# Altium schematic symbol library EISI.SchLib: 270 symbols (part 2 of 3)
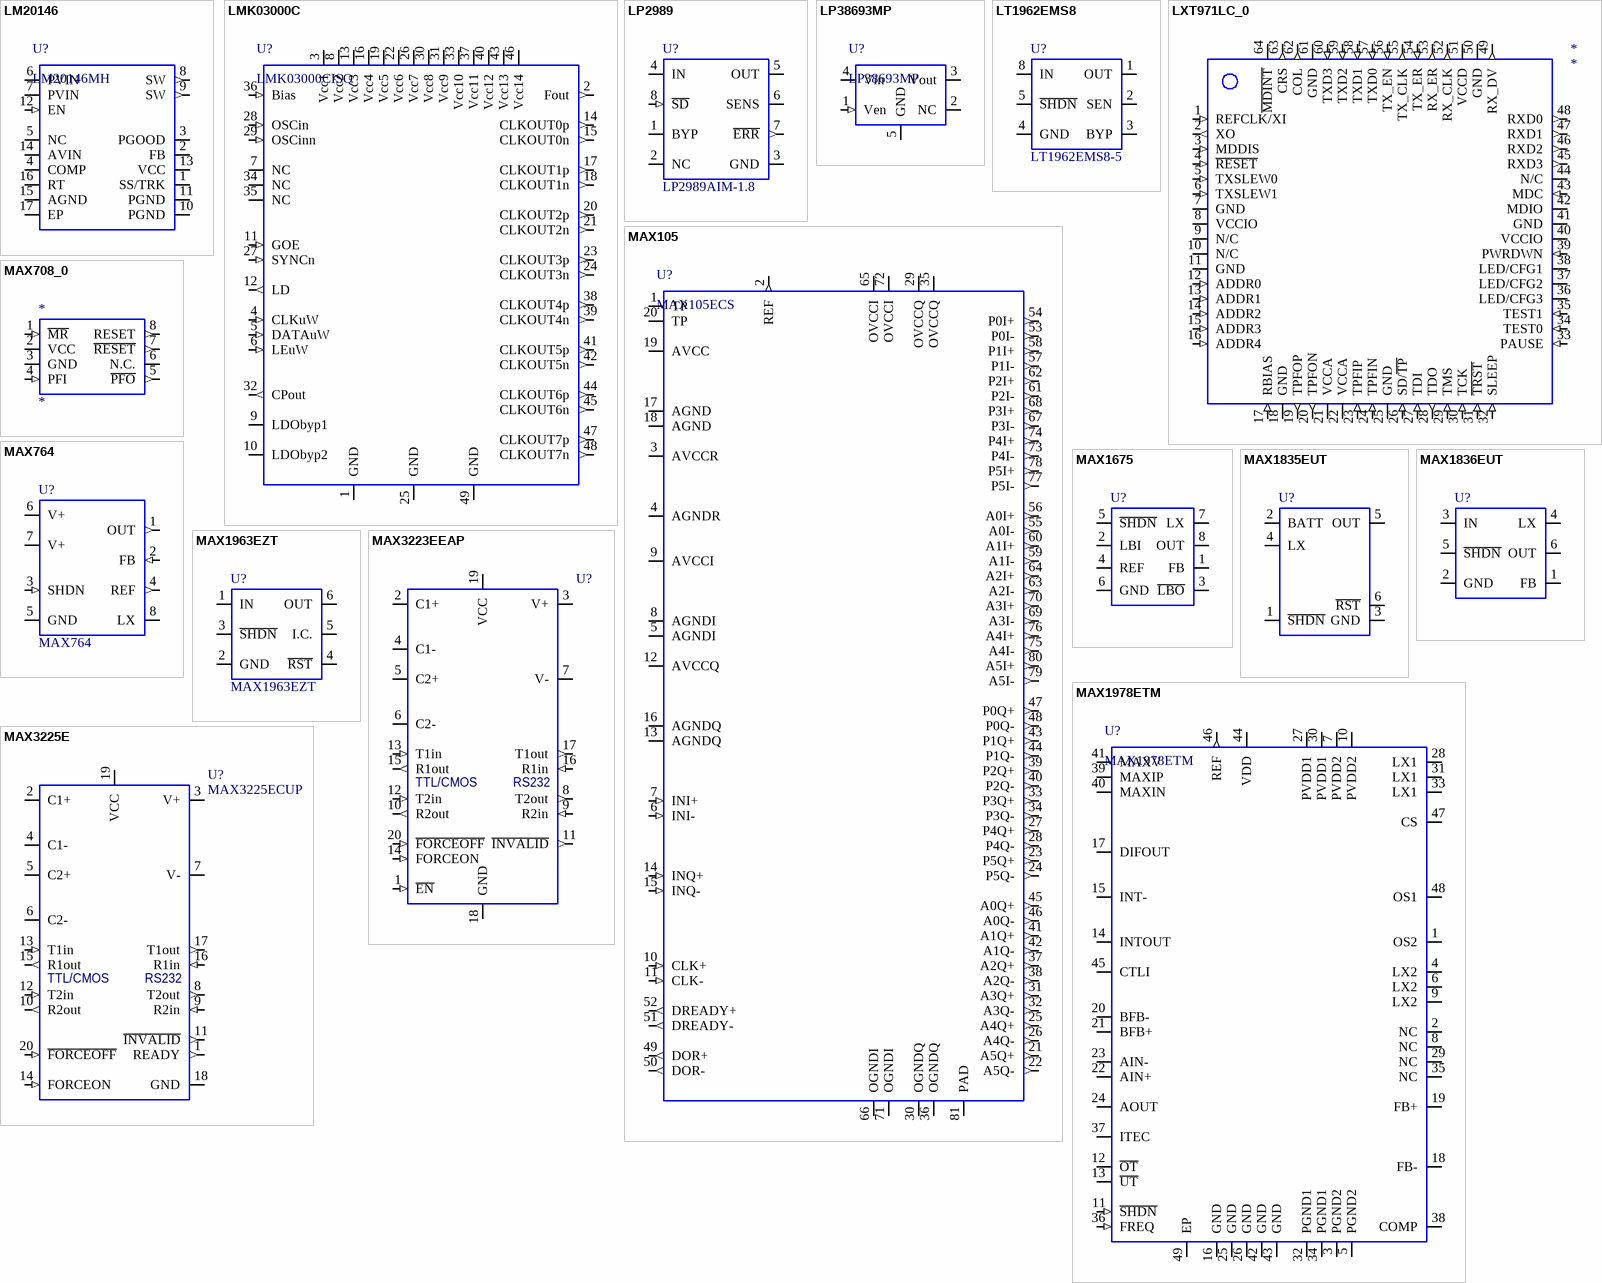
[diagram p20: symbols LM20146 to MAX3225E]

## MAX1963EZT
designator U?
Regulateur lineaire
footprint SOT23601
pins: 1 IN, 2 GND, 3 ~{SHDN}, 4 ~{RST}, 5 I.C., 6 OUT

## MAX1978ETM
designator U?
Intergrated Temperature Controller for Peltier Modules
footprint QFN48 (48-Pin Quad Flat No-Lead (QFG48))
pins: 1 OS2, 2 NC, 3 PGND2 (power), 4 LX2, 5 PGND2 (power), 6 LX2, 7 PVDD2 (power), 8 NC, 9 LX2, 10 PVDD2 (power), 11 ~{SHDN} (in), 12 ~{OT} (oc), 13 ~{UT} (oc), 14 INTOUT, 15 INT-, 16 GND (power), 17 DIFOUT, 18 FB-, 19 FB+, 20 BFB-, 21 BFB+, 22 AIN+, 23 AIN-, 24 AOUT, 25 GND (power), 26 GND (power), 27 PVDD1 (power), 28 LX1, 29 NC, 30 PVDD1 (power), 31 LX1, 32 PGND1 (power), 33 LX1, 34 PGND1 (power), 35 NC, 36 FREQ (in), 37 ITEC, 38 COMP, 39 MAXIP, 40 MAXIN, 41 MAXV, 42 GND (power), 43 GND (power), 44 VDD (power), 45 CTLI, 46 REF (out), 47 CS, 48 OS1, 49 EP (power)

## MAX3223EEAP
designator U?
pins: 1 ~{EN} (in), 2 C1+, 3 V+, 4 C1-, 5 C2+, 6 C2-, 7 V-, 8 T2out (out), 9 R2in (in), 10 R2out (out), 11 ~{INVALID} (out), 12 T2in (in), 13 T1in (in), 14 FORCEON (in), 15 R1out (out), 16 R1in (in), 17 T1out (out), 18 GND (power), 19 VCC (power), 20 ~{FORCEOFF} (in)
text: TTL/CMOS; RS232

## MAX3225E
designator U?, comment MAX3225ECUP
±15kV ESD-Protected, 1µA, 1Mbps, 3.0V to 5.5V,  RS-232 Transceivers with AutoShutdown Plus
footprint TSSOP20 (Shrink Small Outline; 20 Leads; Body Width 4.4 mm; Pitch 0.65 mm)
pins: 1 READY (out), 2 C1+, 3 V+, 4 C1-, 5 C2+, 6 C2-, 7 V-, 8 T2out (out), 9 R2in (in), 10 R2out (out), 11 ~{INVALID} (out), 12 T2in (in), 13 T1in (in), 14 FORCEON (in), 15 R1out (out), 16 R1in (in), 17 T1out (out), 18 GND (power), 19 VCC (power), 20 ~{FORCEOFF} (in)
text: TTL/CMOS; RS232

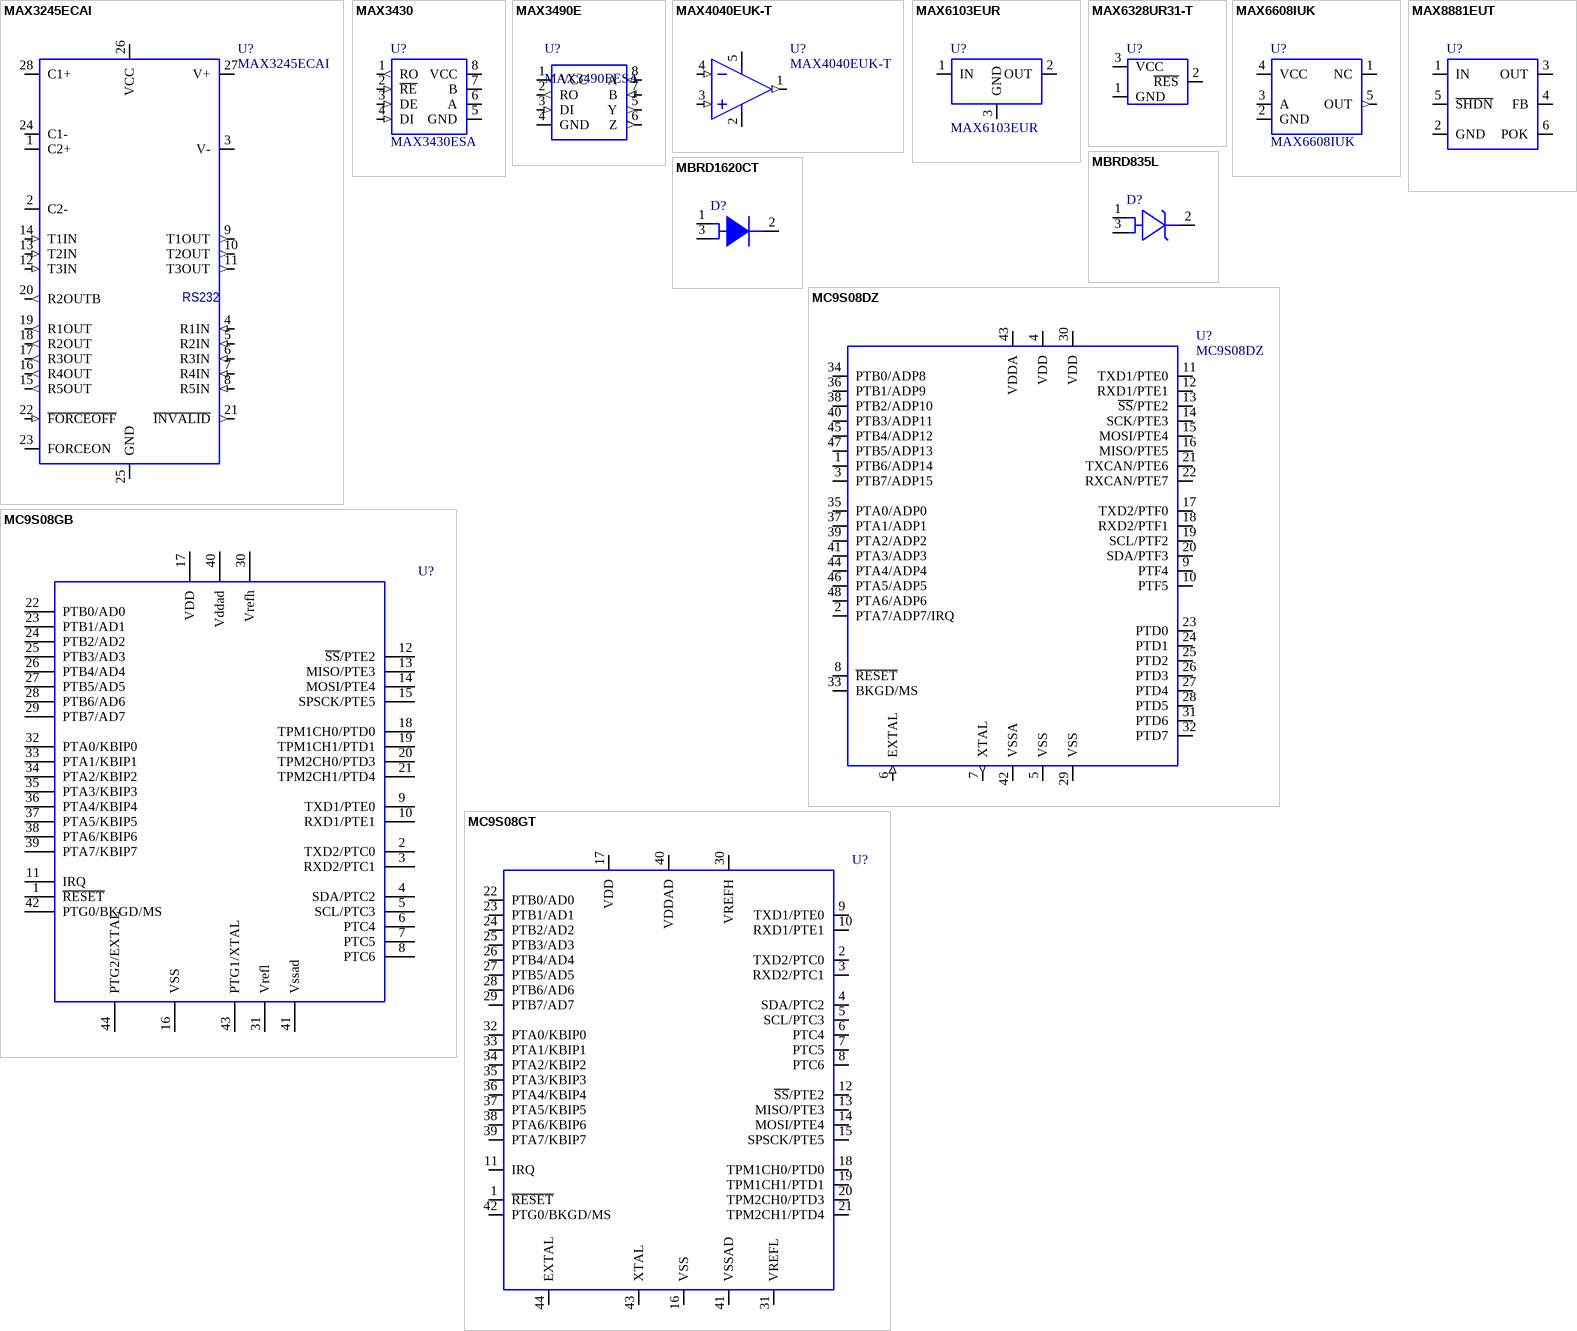
[diagram p6: symbols MAX3245ECAI to MC9S08GT]

## MAX3245ECAI
designator U?
RS-232 Transceiver
footprint SSOP28 (SSOP; 28 Leads; Body Width 5.3 mm; Pitch 0.65 mm)
pins: 1 C2+, 2 C2-, 3 V- (power), 4 R1IN (in), 5 R2IN (in), 6 R3IN (in), 7 R4IN (in), 8 R5IN (in), 9 T1OUT (out), 10 T2OUT (out), 11 T3OUT (out), 12 T3IN (in), 13 T2IN (in), 14 T1IN (in), 15 R5OUT (out), 16 R4OUT (out), 17 R3OUT (out), 18 R2OUT (out), 19 R1OUT (out), 20 R2OUTB (out), 21 ~{INVALID} (out), 22 ~{FORCEOFF} (in), 23 FORCEON, 24 C1-, 25 GND (power), 26 VCC (power), 27 V+ (power), 28 C1+
text: RS232

## MAX3430
designator U?, comment MAX3430ESA
RS-485 Transceiver
footprint SO801
pins: 1 RO (out), 2 ~{RE} (in), 3 DE (in), 4 DI (in), 5 GND (power), 6 A (io), 7 B (io), 8 VCC (power)

## MAX3490E
designator U?, comment MAX3490EESA
3.3V Powered, 10Mbps and Slew-Rate Limited, True RS-485/RS-422 Transceivers
footprint SO801
pins: 1 VCC (power), 2 RO (out), 3 DI (in), 4 GND (power), 5 Y (out), 6 Z (out), 7 B (in), 8 A (in)

## MAX4040EUK-T
designator U?
Single Micropower Rail-to-Rail I/O Op Amp in SOT23-5
footprint SOT23-5 (SOT-23/SC-74A; 5 Leads; Body 3 x 3 mm, inc. leads (LxW max))
simulation model MAX4104 (SUBCKT)
pins: 1 OUT (out), 2 VEE (power), 3 IN+ (in), 4 IN- (in), 5 VCC (power)

## MAX6103EUR
designator U?
Reference de tension
footprint SOT2301
pins: 1 IN (power), 2 OUT (power), 3 GND (power)

## MAX6328UR31-T
designator U?
uP reset circuit
footprint SOT2301
pins: 1 GND (power), 2 ~{RES} (oc), 3 VCC (power)

## MAX6608IUK
designator U?
Temperature sensor
footprint SOT23501
pins: 1 NC, 2 GND (power), 3 A (power), 4 VCC (power), 5 OUT (out)

## MAX8881EUT
designator U?
Regulateur lineaire
pins: 1 IN, 2 GND, 3 OUT, 4 FB, 5 ~{SHDN}, 6 POK

## MBRD835L
designator D?
Diode Schottky; Right: 30; Bottom: 40
footprint DPAK01
pins: 1 A1, 2 CATHODE, 3 A2

## MBRD1620CT
designator D?
Diode ultrafast; Right: 30; Bottom: 40
footprint D2PAK01
pins: 1 A1, 2 CATHODE, 3 A2

## MC9S08DZ
designator U?
Microcontrôleur
footprint QFP48 (48-Pin Thin Quad Flat Pack 0.5 mm Pitch, IPC High Density)
pins: 1 PTB6/ADP14 (io), 2 PTA7/ADP7/IRQ (io), 3 PTB7/ADP15 (io), 4 VDD (power), 5 VSS (power), 6 EXTAL (in), 7 XTAL (out), 8 ~{RESET} (io), 9 PTF4 (io), 10 PTF5 (io), 11 TXD1/PTE0 (io), 12 RXD1/PTE1 (io), 13 ~{SS}/PTE2 (io), 14 SCK/PTE3 (io), 15 MOSI/PTE4 (io), 16 MISO/PTE5, 17 TXD2/PTF0 (io), 18 RXD2/PTF1 (io), 19 SCL/PTF2 (io), 20 SDA/PTF3 (io), 21 TXCAN/PTE6 (io), 22 RXCAN/PTE7 (io), 23 PTD0 (io), 24 PTD1, 25 PTD2 (io), 26 PTD3 (io), 27 PTD4 (io), 28 PTD5 (io), 29 VSS (power), 30 VDD (power), 31 PTD6 (io), 32 PTD7 (io), 33 BKGD/MS (io), 34 PTB0/ADP8 (io), 35 PTA0/ADP0 (io), 36 PTB1/ADP9 (io), 37 PTA1/ADP1 (io), 38 PTB2/ADP10 (io), 39 PTA2/ADP2 (io), 40 PTB3/ADP11 (io), 41 PTA3/ADP3 (io), 42 VSSA, 43 VDDA, 44 PTA4/ADP4 (io), 45 PTB4/ADP12 (io), 46 PTA5/ADP5 (io), 47 PTB5/ADP13 (io), 48 PTA6/ADP6 (io)

## MC9S08GB
designator U?
Microcontrôleur
footprint QFP6401
pins: 1 ~{RESET}, 2 TXD2/PTC0, 3 RXD2/PTC1, 4 SDA/PTC2, 5 SCL/PTC3, 6 PTC4, 7 PTC5, 8 PTC6, 9 TXD1/PTE0, 10 RXD1/PTE1, 11 IRQ, 12 ~{SS}/PTE2, 13 MISO/PTE3, 14 MOSI/PTE4, 15 SPSCK/PTE5, 16 VSS, 17 VDD, 18 TPM1CH0/PTD0, 19 TPM1CH1/PTD1, 20 TPM2CH0/PTD3, 21 TPM2CH1/PTD4, 22 PTB0/AD0, 23 PTB1/AD1, 24 PTB2/AD2, 25 PTB3/AD3, 26 PTB4/AD4, 27 PTB5/AD5, 28 PTB6/AD6, 29 PTB7/AD7, 30 Vrefh, 31 Vrefl, 32 PTA0/KBIP0, 33 PTA1/KBIP1, 34 PTA2/KBIP2, 35 PTA3/KBIP3, 36 PTA4/KBIP4, 37 PTA5/KBIP5, 38 PTA6/KBIP6, 39 PTA7/KBIP7, 40 Vddad, 41 Vssad, 42 PTG0/BKGD/MS, 43 PTG1/XTAL, 44 PTG2/EXTAL

## MC9S08GT
designator U?
Microcontrôleur
footprint QFP4401
pins: 1 ~{RESET}, 2 TXD2/PTC0, 3 RXD2/PTC1, 4 SDA/PTC2, 5 SCL/PTC3, 6 PTC4, 7 PTC5, 8 PTC6, 9 TXD1/PTE0, 10 RXD1/PTE1, 11 IRQ, 12 ~{SS}/PTE2, 13 MISO/PTE3, 14 MOSI/PTE4, 15 SPSCK/PTE5, 16 VSS, 17 VDD, 18 TPM1CH0/PTD0, 19 TPM1CH1/PTD1, 20 TPM2CH0/PTD3, 21 TPM2CH1/PTD4, 22 PTB0/AD0, 23 PTB1/AD1, 24 PTB2/AD2, 25 PTB3/AD3, 26 PTB4/AD4, 27 PTB5/AD5, 28 PTB6/AD6, 29 PTB7/AD7, 30 VREFH, 31 VREFL, 32 PTA0/KBIP0, 33 PTA1/KBIP1, 34 PTA2/KBIP2, 35 PTA3/KBIP3, 36 PTA4/KBIP4, 37 PTA5/KBIP5, 38 PTA6/KBIP6, 39 PTA7/KBIP7, 40 VDDAD, 41 VSSAD, 42 PTG0/BKGD/MS, 43 XTAL, 44 EXTAL

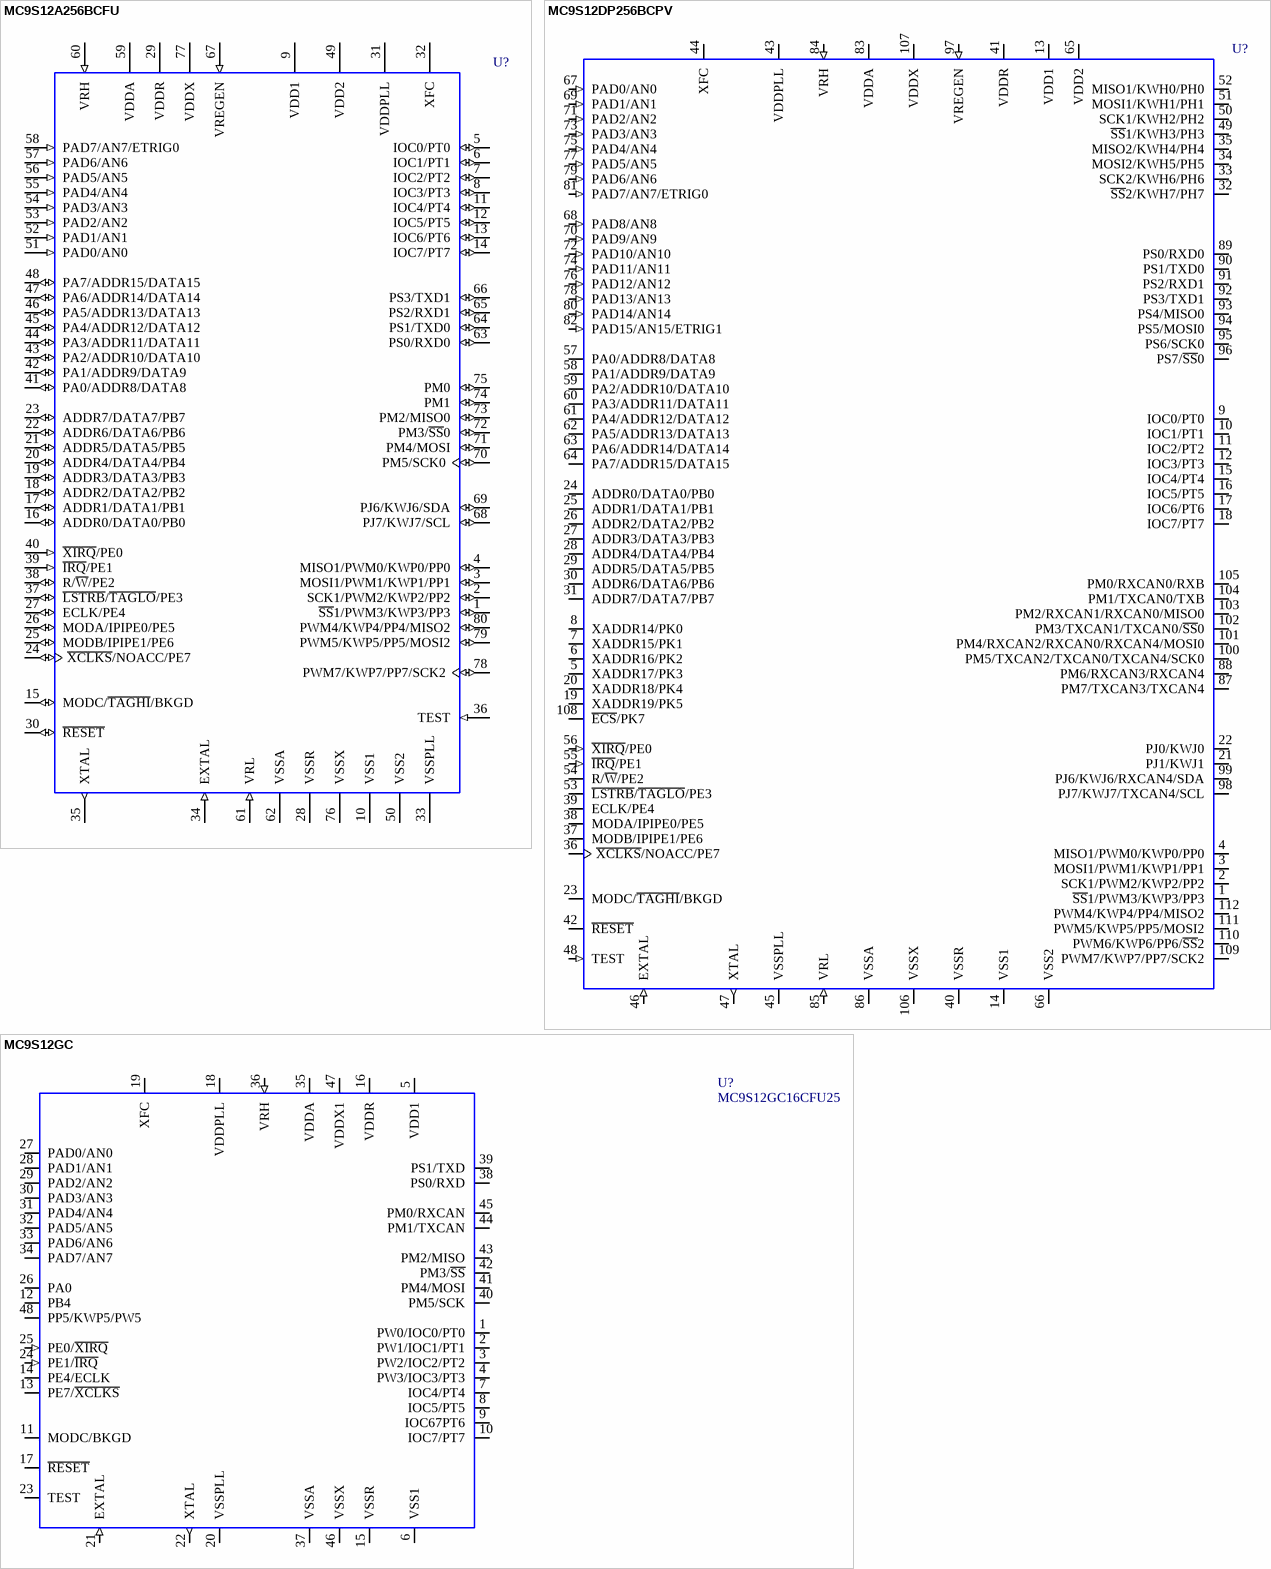
[diagram p7: symbols MC9S12A256BCFU to MC9S12GC]

## MC9S12A256BCFU
designator U?
16-Bit Microcontroller
footprint QFP80 (Plastic QFP; 80 Leads; Body 14 x 14 mm; Pitch 0.65 mm)
pins: 1 ~{SS}1/PWM3/KWP3/PP3 (io), 2 SCK1/PWM2/KWP2/PP2 (io), 3 MOSI1/PWM1/KWP1/PP1 (io), 4 MISO1/PWM0/KWP0/PP0 (io), 5 IOC0/PT0 (io), 6 IOC1/PT1 (io), 7 IOC2/PT2 (io), 8 IOC3/PT3 (io), 9 VDD1 (power), 10 VSS1 (power), 11 IOC4/PT4 (io), 12 IOC5/PT5 (io), 13 IOC6/PT6 (io), 14 IOC7/PT7 (io), 15 MODC/~{TAGHI}/BKGD (io), 16 ADDR0/DATA0/PB0 (io), 17 ADDR1/DATA1/PB1 (io), 18 ADDR2/DATA2/PB2 (io), 19 ADDR3/DATA3/PB3 (io), 20 ADDR4/DATA4/PB4 (io), 21 ADDR5/DATA5/PB5 (io), 22 ADDR6/DATA6/PB6 (io), 23 ADDR7/DATA7/PB7 (io), 24 ~{XCLKS}/NOACC/PE7 (io), 25 MODB/IPIPE1/PE6 (io), 26 MODA/IPIPE0/PE5 (io), 27 ECLK/PE4 (io), 28 VSSR (power), 29 VDDR (power), 30 ~{RESET} (io), 31 VDDPLL (power), 32 XFC, 33 VSSPLL (power), 34 EXTAL (in), 35 XTAL (out), 36 TEST (in), 37 ~{LSTRB}/~{TAGLO}/PE3 (io), 38 R/~{W}/PE2 (io), 39 ~{IRQ}/PE1 (in), 40 ~{XIRQ}/PE0 (in), 41 PA0/ADDR8/DATA8 (io), 42 PA1/ADDR9/DATA9 (io), 43 PA2/ADDR10/DATA10 (io), 44 PA3/ADDR11/DATA11 (io), 45 PA4/ADDR12/DATA12 (io), 46 PA5/ADDR13/DATA13 (io), 47 PA6/ADDR14/DATA14 (io), 48 PA7/ADDR15/DATA15 (io), 49 VDD2 (power), 50 VSS2 (power), 51 PAD0/AN0 (in), 52 PAD1/AN1 (in), 53 PAD2/AN2 (in), 54 PAD3/AN3 (in), 55 PAD4/AN4 (in), 56 PAD5/AN5 (in), 57 PAD6/AN6 (in), 58 PAD7/AN7/ETRIG0 (in), 59 VDDA (power), 60 VRH (in), 61 VRL (in), 62 VSSA (power), 63 PS0/RXD0 (io), 64 PS1/TXD0 (io), 65 PS2/RXD1 (io), 66 PS3/TXD1 (io), 67 VREGEN (in), 68 PJ7/KWJ7/SCL (io), 69 PJ6/KWJ6/SDA (io), 70 PM5/SCK0 (io), 71 PM4/MOSI (io), 72 PM3/~{SS}0 (io), 73 PM2/MISO0 (io), 74 PM1 (io), 75 PM0 (io), 76 VSSX (power), 77 VDDX (power), 78 PWM7/KWP7/PP7/SCK2 (io), 79 PWM5/KWP5/PP5/MOSI2 (io), 80 PWM4/KWP4/PP4/MISO2 (io)

## MC9S12DP256BCPV
designator U?
16-Bit Microcontroller; PackageDocument: rev3.1, Nov-2000; Published: 21-Mar-2003; DatasheetDocument: 12-Aug-2002; PackageReference: 987-01; Publisher: Altium Limited; ComponentLink1Description: Manufacturer Link; ComponentLink1URL: http://www.motorola.com/
footprint QFP11201 (QFP; 112 Leads; Body 20 x 20 mm; Pitch 0.65 mm)
pins: 1 ~{SS}1/PWM3/KWP3/PP3 (io), 2 SCK1/PWM2/KWP2/PP2 (io), 3 MOSI1/PWM1/KWP1/PP1 (io), 4 MISO1/PWM0/KWP0/PP0 (io), 5 XADDR17/PK3 (io), 6 XADDR16/PK2 (io), 7 XADDR15/PK1 (io), 8 XADDR14/PK0 (io), 9 IOC0/PT0 (io), 10 IOC1/PT1 (io), 11 IOC2/PT2 (io), 12 IOC3/PT3 (io), 13 VDD1 (power), 14 VSS1 (power), 15 IOC4/PT4 (io), 16 IOC5/PT5 (io), 17 IOC6/PT6 (io), 18 IOC7/PT7 (io), 19 XADDR19/PK5 (io), 20 XADDR18/PK4 (io), 21 PJ1/KWJ1 (io), 22 PJ0/KWJ0 (io), 23 MODC/~{TAGHI}/BKGD (io), 24 ADDR0/DATA0/PB0 (io), 25 ADDR1/DATA1/PB1 (io), 26 ADDR2/DATA2/PB2 (io), 27 ADDR3/DATA3/PB3 (io), 28 ADDR4/DATA4/PB4 (io), 29 ADDR5/DATA5/PB5 (io), 30 ADDR6/DATA6/PB6 (io), 31 ADDR7/DATA7/PB7 (io), 32 ~{SS}2/KWH7/PH7 (io), 33 SCK2/KWH6/PH6 (io), 34 MOSI2/KWH5/PH5 (io), 35 MISO2/KWH4/PH4 (io), 36 ~{XCLKS}/NOACC/PE7 (io), 37 MODB/IPIPE1/PE6 (io), 38 MODA/IPIPE0/PE5 (io), 39 ECLK/PE4 (io), 40 VSSR (power), 41 VDDR (power), 42 ~{RESET} (io), 43 VDDPLL (power), 44 XFC, 45 VSSPLL (power), 46 EXTAL (in), 47 XTAL (out), 48 TEST (in), 49 ~{SS}1/KWH3/PH3 (io), 50 SCK1/KWH2/PH2 (io), 51 MOSI1/KWH1/PH1 (io), 52 MISO1/KWH0/PH0 (io), 53 ~{LSTRB}/~{TAGLO}/PE3 (io), 54 R/~{W}/PE2 (io), 55 ~{IRQ}/PE1 (in), 56 ~{XIRQ}/PE0 (in), 57 PA0/ADDR8/DATA8 (io), 58 PA1/ADDR9/DATA9 (io), 59 PA2/ADDR10/DATA10 (io), 60 PA3/ADDR11/DATA11 (io), 61 PA4/ADDR12/DATA12 (io), 62 PA5/ADDR13/DATA13 (io), 63 PA6/ADDR14/DATA14 (io), 64 PA7/ADDR15/DATA15 (io), 65 VDD2 (power), 66 VSS2 (power), 67 PAD0/AN0 (in), 68 PAD8/AN8 (in), 69 PAD1/AN1 (in), 70 PAD9/AN9 (in), 71 PAD2/AN2 (in), 72 PAD10/AN10 (in), 73 PAD3/AN3 (in), 74 PAD11/AN11 (in), 75 PAD4/AN4 (in), 76 PAD12/AN12 (in), 77 PAD5/AN5 (in), 78 PAD13/AN13 (in), 79 PAD6/AN6 (in), 80 PAD14/AN14 (in), 81 PAD7/AN7/ETRIG0 (in), 82 PAD15/AN15/ETRIG1 (in), 83 VDDA (power), 84 VRH (in), 85 VRL (in), 86 VSSA (power), 87 PM7/TXCAN3/TXCAN4 (io), 88 PM6/RXCAN3/RXCAN4 (io), 89 PS0/RXD0 (io), 90 PS1/TXD0 (io), 91 PS2/RXD1 (io), 92 PS3/TXD1 (io), 93 PS4/MISO0 (io), 94 PS5/MOSI0 (io), 95 PS6/SCK0 (io), 96 PS7/~{SS}0 (io), 97 VREGEN (in), 98 PJ7/KWJ7/TXCAN4/SCL (io), 99 PJ6/KWJ6/RXCAN4/SDA (io), 100 PM5/TXCAN2/TXCAN0/TXCAN4/SCK0 (io), 101 PM4/RXCAN2/RXCAN0/RXCAN4/MOSI0 (io), 102 PM3/TXCAN1/TXCAN0/~{SS}0 (io), 103 PM2/RXCAN1/RXCAN0/MISO0 (io), 104 PM1/TXCAN0/TXB (io), 105 PM0/RXCAN0/RXB (io), 106 VSSX (power), 107 VDDX (power), 108 ~{ECS}/PK7 (io), 109 PWM7/KWP7/PP7/SCK2 (io), 110 PWM6/KWP6/PP6/~{SS}2 (io), 111 PWM5/KWP5/PP5/MOSI2 (io), 112 PWM4/KWP4/PP4/MISO2 (io)

## MC9S12GC
designator U?, comment MC9S12GC16CFU25
16-Bit Microcontroller
footprint LQFP48 (48-Pin Thin Quad Flat Pack 0.5 mm Pitch, IPC Medium Density)
pins: 1 PW0/IOC0/PT0 (io), 2 PW1/IOC1/PT1 (io), 3 PW2/IOC2/PT2 (io), 4 PW3/IOC3/PT3 (io), 5 VDD1 (power), 6 VSS1 (power), 7 IOC4/PT4 (io), 8 IOC5/PT5 (io), 9 IOC67PT6 (io), 10 IOC7/PT7 (io), 11 MODC/BKGD (io), 12 PB4 (io), 13 PE7/~{XCLKS} (io), 14 PE4/ECLK (io), 15 VSSR (power), 16 VDDR (power), 17 ~{RESET} (io), 18 VDDPLL (power), 19 XFC, 20 VSSPLL (power), 21 EXTAL (in), 22 XTAL (out), 23 TEST (power), 24 PE1/~{IRQ} (in), 25 PE0/~{XIRQ} (in), 26 PA0 (io), 27 PAD0/AN0 (io), 28 PAD1/AN1 (io), 29 PAD2/AN2 (io), 30 PAD3/AN3 (io), 31 PAD4/AN4 (io), 32 PAD5/AN5 (io), 33 PAD6/AN6 (io), 34 PAD7/AN7 (io), 35 VDDA (power), 36 VRH (in), 37 VSSA (power), 38 PS0/RXD (io), 39 PS1/TXD (io), 40 PM5/SCK (io), 41 PM4/MOSI (io), 42 PM3/~{SS} (io), 43 PM2/MISO (io), 44 PM1/TXCAN (io), 45 PM0/RXCAN (io), 46 VSSX (power), 47 VDDX1 (power), 48 PP5/KWP5/PW5 (io)

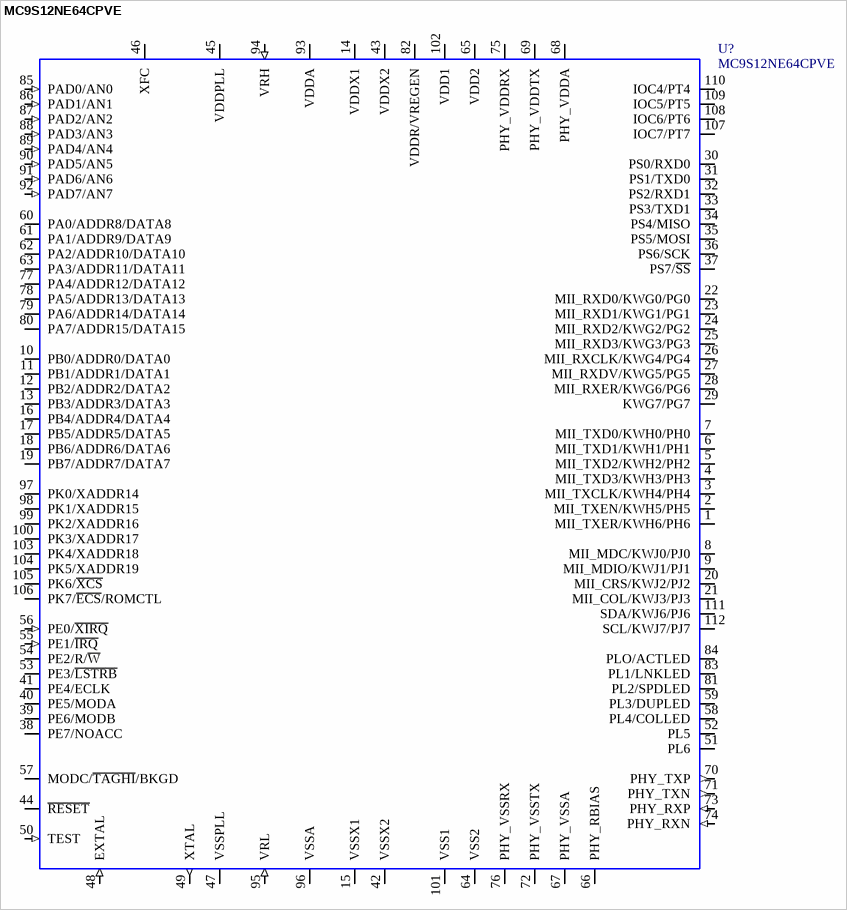
[diagram p8: symbol MC9S12NE64CPVE]

## MC9S12NE64CPVE
designator U?
16-Bit Microcontroller
footprint QFP11201 (QFP; 112 Leads; Body 20 x 20 mm; Pitch 0.65 mm)
pins: 1 MII_TXER/KWH6/PH6 (io), 2 MII_TXEN/KWH5/PH5 (io), 3 MII_TXCLK/KWH4/PH4 (io), 4 MII_TXD3/KWH3/PH3 (io), 5 MII_TXD2/KWH2/PH2 (io), 6 MII_TXD1/KWH1/PH1 (io), 7 MII_TXD0/KWH0/PH0 (io), 8 MII_MDC/KWJ0/PJ0 (io), 9 MII_MDIO/KWJ1/PJ1 (io), 10 PB0/ADDR0/DATA0 (io), 11 PB1/ADDR1/DATA1 (io), 12 PB2/ADDR2/DATA2 (io), 13 PB3/ADDR3/DATA3 (io), 14 VDDX1 (power), 15 VSSX1 (power), 16 PB4/ADDR4/DATA4 (io), 17 PB5/ADDR5/DATA5 (io), 18 PB6/ADDR6/DATA6 (io), 19 PB7/ADDR7/DATA7 (io), 20 MII_CRS/KWJ2/PJ2 (io), 21 MII_COL/KWJ3/PJ3 (io), 22 MII_RXD0/KWG0/PG0 (io), 23 MII_RXD1/KWG1/PG1 (io), 24 MII_RXD2/KWG2/PG2 (io), 25 MII_RXD3/KWG3/PG3 (io), 26 MII_RXCLK/KWG4/PG4 (io), 27 MII_RXDV/KWG5/PG5 (io), 28 MII_RXER/KWG6/PG6 (io), 29 KWG7/PG7 (io), 30 PS0/RXD0 (io), 31 PS1/TXD0 (io), 32 PS2/RXD1 (io), 33 PS3/TXD1 (io), 34 PS4/MISO (io), 35 PS5/MOSI (io), 36 PS6/SCK (io), 37 PS7/~{SS} (io), 38 PE7/NOACC (io), 39 PE6/MODB (io), 40 PE5/MODA (io), 41 PE4/ECLK (io), 42 VSSX2 (power), 43 VDDX2 (power), 44 ~{RESET} (io), 45 VDDPLL (power), 46 XFC, 47 VSSPLL (power), 48 EXTAL (in), 49 XTAL (out), 50 TEST (in), 51 PL6 (io), 52 PL5 (io), 53 PE3/~{LSTRB} (io), 54 PE2/R/~{W} (io), 55 PE1/~{IRQ} (in), 56 PE0/~{XIRQ} (in), 57 MODC/~{TAGHI}/BKGD (io), 58 PL4/COLLED (io), 59 PL3/DUPLED (io), 60 PA0/ADDR8/DATA8 (io), 61 PA1/ADDR9/DATA9 (io), 62 PA2/ADDR10/DATA10 (io), 63 PA3/ADDR11/DATA11 (io), 64 VSS2 (power), 65 VDD2 (power), 66 PHY_RBIAS, 67 PHY_VSSA, 68 PHY_VDDA, 69 PHY_VDDTX, 70 PHY_TXP (out), 71 PHY_TXN (out), 72 PHY_VSSTX (power), 73 PHY_RXP (in), 74 PHY_RXN (in), 75 PHY_VDDRX (power), 76 PHY_VSSRX (power), 77 PA4/ADDR12/DATA12 (io), 78 PA5/ADDR13/DATA13 (io), 79 PA6/ADDR14/DATA14 (io), 80 PA7/ADDR15/DATA15 (io), 81 PL2/SPDLED (io), 82 VDDR/VREGEN (power), 83 PL1/LNKLED (io), 84 PLO/ACTLED (io), 85 PAD0/AN0 (in), 86 PAD1/AN1 (in), 87 PAD2/AN2 (in), 88 PAD3/AN3 (in), 89 PAD4/AN4 (in), 90 PAD5/AN5 (in), 91 PAD6/AN6 (in), 92 PAD7/AN7 (in), 93 VDDA (power), 94 VRH (in), 95 VRL (in), 96 VSSA (power), 97 PK0/XADDR14 (io), 98 PK1/XADDR15 (io), 99 PK2/XADDR16 (io), 100 PK3/XADDR17 (io), 101 VSS1 (power), 102 VDD1 (power), 103 PK4/XADDR18 (io), 104 PK5/XADDR19 (io), 105 PK6/~{XCS} (io), 106 PK7/~{ECS}/ROMCTL (io), 107 IOC7/PT7 (io), 108 IOC6/PT6 (io), 109 IOC5/PT5 (io), 110 IOC4/PT4 (io), 111 SDA/KWJ6/PJ6 (io), 112 SCL/KWJ7/PJ7 (io)

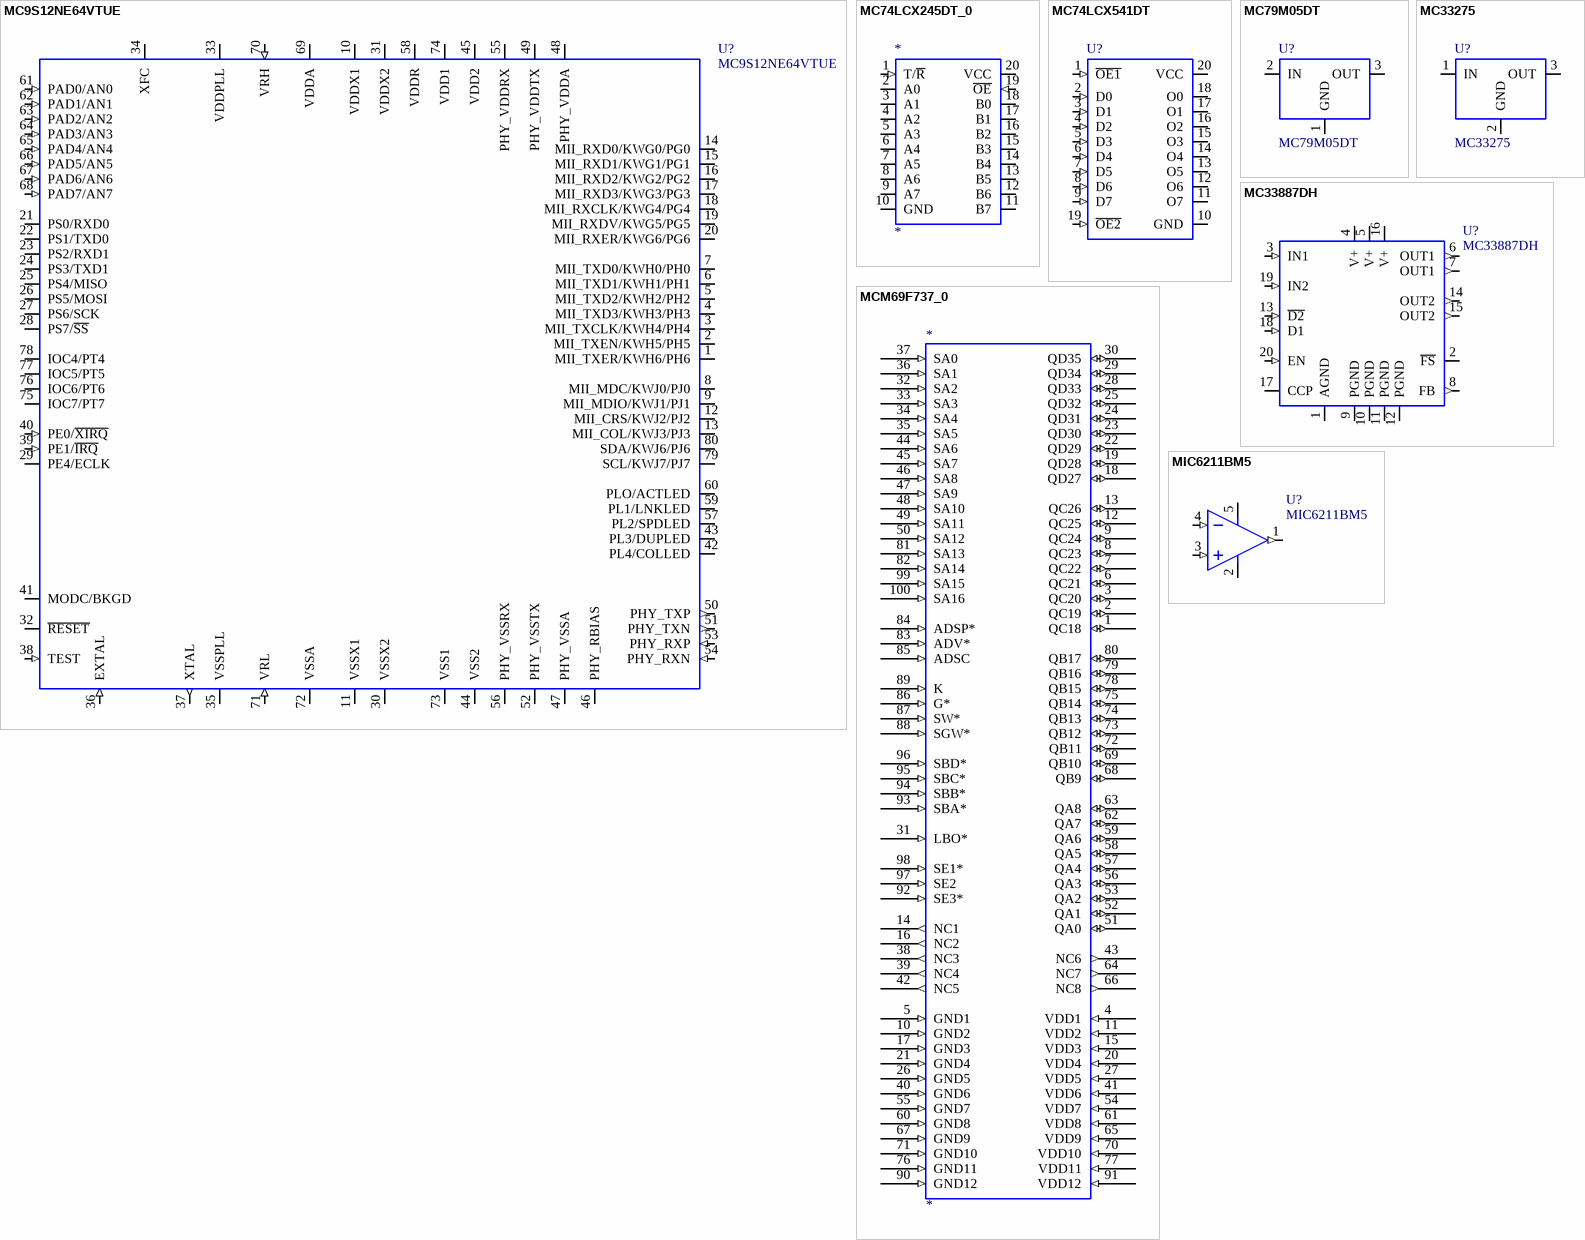
[diagram p9: symbols MC9S12NE64VTUE to MIC6211BM5]

## MC9S12NE64VTUE
designator U?
16-Bit Microcontroller
footprint QFP80 (Plastic QFP; 80 Leads; Body 14 x 14 mm; Pitch 0.65 mm)
pins: 1 MII_TXER/KWH6/PH6 (io), 2 MII_TXEN/KWH5/PH5 (io), 3 MII_TXCLK/KWH4/PH4 (io), 4 MII_TXD3/KWH3/PH3 (io), 5 MII_TXD2/KWH2/PH2 (io), 6 MII_TXD1/KWH1/PH1 (io), 7 MII_TXD0/KWH0/PH0 (io), 8 MII_MDC/KWJ0/PJ0 (io), 9 MII_MDIO/KWJ1/PJ1 (io), 10 VDDX1 (power), 11 VSSX1 (power), 12 MII_CRS/KWJ2/PJ2 (io), 13 MII_COL/KWJ3/PJ3 (io), 14 MII_RXD0/KWG0/PG0 (io), 15 MII_RXD1/KWG1/PG1 (io), 16 MII_RXD2/KWG2/PG2 (io), 17 MII_RXD3/KWG3/PG3 (io), 18 MII_RXCLK/KWG4/PG4 (io), 19 MII_RXDV/KWG5/PG5 (io), 20 MII_RXER/KWG6/PG6 (io), 21 PS0/RXD0 (io), 22 PS1/TXD0 (io), 23 PS2/RXD1 (io), 24 PS3/TXD1 (io), 25 PS4/MISO (io), 26 PS5/MOSI (io), 27 PS6/SCK (io), 28 PS7/~{SS} (io), 29 PE4/ECLK (io), 30 VSSX2 (power), 31 VDDX2 (power), 32 ~{RESET} (io), 33 VDDPLL (power), 34 XFC, 35 VSSPLL (power), 36 EXTAL (in), 37 XTAL (out), 38 TEST (in), 39 PE1/~{IRQ} (in), 40 PE0/~{XIRQ} (in), 41 MODC/BKGD (io), 42 PL4/COLLED (io), 43 PL3/DUPLED (io), 44 VSS2 (power), 45 VDD2 (power), 46 PHY_RBIAS, 47 PHY_VSSA, 48 PHY_VDDA, 49 PHY_VDDTX, 50 PHY_TXP (out), 51 PHY_TXN (out), 52 PHY_VSSTX (power), 53 PHY_RXP (in), 54 PHY_RXN (in), 55 PHY_VDDRX (power), 56 PHY_VSSRX (power), 57 PL2/SPDLED (io), 58 VDDR (power), 59 PL1/LNKLED (io), 60 PLO/ACTLED (io), 61 PAD0/AN0 (in), 62 PAD1/AN1 (in), 63 PAD2/AN2 (in), 64 PAD3/AN3 (in), 65 PAD4/AN4 (in), 66 PAD5/AN5 (in), 67 PAD6/AN6 (in), 68 PAD7/AN7 (in), 69 VDDA (power), 70 VRH (in), 71 VRL (in), 72 VSSA (power), 73 VSS1 (power), 74 VDD1 (power), 75 IOC7/PT7 (io), 76 IOC6/PT6 (io), 77 IOC5/PT5 (io), 78 IOC4/PT4 (io), 79 SCL/KWJ7/PJ7 (io), 80 SDA/KWJ6/PJ6 (io)

## MC74LCX245DT_0
designator *
Right: 70; Bottom: 110
pins: 1 T/~{R} (in), 2 A0 (io), 3 A1 (io), 4 A2 (io), 5 A3 (io), 6 A4 (io), 7 A5 (io), 8 A6 (io), 9 A7 (io), 10 GND, 11 B7 (io), 12 B6 (io), 13 B5 (io), 14 B4 (io), 15 B3 (io), 16 B2 (io), 17 B1 (io), 18 B0 (io), 19 ~{OE} (in), 20 VCC

## MC74LCX541DT
designator U?
Octal buffer; Right: 70; Bottom: 130
pins: 1 ~{OE1} (in), 2 D0 (in), 3 D1 (in), 4 D2 (in), 5 D3 (in), 6 D4 (in), 7 D5 (in), 8 D6 (in), 9 D7 (in), 10 GND, 11 O7 (io), 12 O6 (io), 13 O5 (io), 14 O4 (io), 15 O3 (io), 16 O2 (io), 17 O1 (io), 18 O0 (io), 19 ~{OE2} (in), 20 VCC

## MC79M05DT
designator U?
Negative Voltage Regulator 500mA
footprint DPAK01
pins: 1 GND, 2 IN, 3 OUT

## MC33275
designator U?
Regulateur lineaire
footprint DPAK01
pins: 1 IN, 2 GND, 3 OUT

## MC33887DH
designator U?
H-Bridge with current feedback
footprint HSOP20 (SOP20 with heatsink)
pins: 1 AGND (power), 2 ~{FS} (oc), 3 IN1 (in), 4 V+ (power), 5 V+ (power), 6 OUT1 (out), 7 OUT1 (out), 8 FB (out), 9 PGND (power), 10 PGND (power), 11 PGND (power), 12 PGND (power), 13 ~{D2} (in), 14 OUT2 (out), 15 OUT2 (out), 16 V+ (power), 17 CCP, 18 D1 (in), 19 IN2 (in), 20 EN (in)

## MCM69F737_0
designator *
Right: 110; Bottom: 570
pins: 1 QC18 (io), 2 QC19 (io), 3 QC20 (io), 4 VDD1 (in), 5 GND1 (in), 6 QC21 (io), 7 QC22 (io), 8 QC23 (io), 9 QC24 (io), 10 GND2 (in), 11 VDD2 (in), 12 QC25 (io), 13 QC26 (io), 14 NC1 (out), 15 VDD3 (in), 16 NC2 (out), 17 GND3 (in), 18 QD27 (io), 19 QD28 (io), 20 VDD4 (in), 21 GND4 (in), 22 QD29 (io), 23 QD30 (io), 24 QD31 (io), 25 QD32 (io), 26 GND5 (in), 27 VDD5 (in), 28 QD33 (io), 29 QD34 (io), 30 QD35 (io), 31 LBO* (in), 32 SA2 (in), 33 SA3 (in), 34 SA4 (in), 35 SA5 (in), 36 SA1 (in), 37 SA0 (in), 38 NC3 (out), 39 NC4 (out), 40 GND6 (in), 41 VDD6 (in), 42 NC5 (out), 43 NC6 (out), 44 SA6 (in), 45 SA7 (in), 46 SA8 (in), 47 SA9 (in), 48 SA10 (in), 49 SA11 (in), 50 SA12 (in), 51 QA0 (io), 52 QA1 (io), 53 QA2 (io), 54 VDD7 (in), 55 GND7 (in), 56 QA3 (io), 57 QA4 (io), 58 QA5 (io), 59 QA6 (io), 60 GND8 (in), 61 VDD8 (in), 62 QA7 (io), 63 QA8 (io), 64 NC7 (out), 65 VDD9 (in), 66 NC8 (out), 67 GND9 (in), 68 QB9 (io), 69 QB10 (io), 70 VDD10 (in), 71 GND10 (in), 72 QB11 (io), 73 QB12 (io), 74 QB13 (io), 75 QB14 (io), 76 GND11 (in), 77 VDD11 (in), 78 QB15 (io), 79 QB16 (io), 80 QB17 (io), 81 SA13 (in), 82 SA14 (in), 83 ADV* (in), 84 ADSP* (in), 85 ADSC (in), 86 G* (in), 87 SW* (in), 88 SGW* (in), 89 K (in), 90 GND12 (in), 91 VDD12 (in), 92 SE3* (in), 93 SBA* (in), 94 SBB* (in), 95 SBC* (in), 96 SBD* (in), 97 SE2 (in), 98 SE1* (in), 99 SA15 (in), 100 SA16 (in)

## MIC6211BM5
designator U?
Op Amp in SOT23-5
footprint SOT23-5 (SOT-23/SC-74A; 5 Leads; Body 3 x 3 mm, inc. leads (LxW max))
simulation model MAX4104 (SUBCKT)
pins: 1 OUT (out), 2 V- (power), 3 IN+ (in), 4 IN- (in), 5 V+ (power)

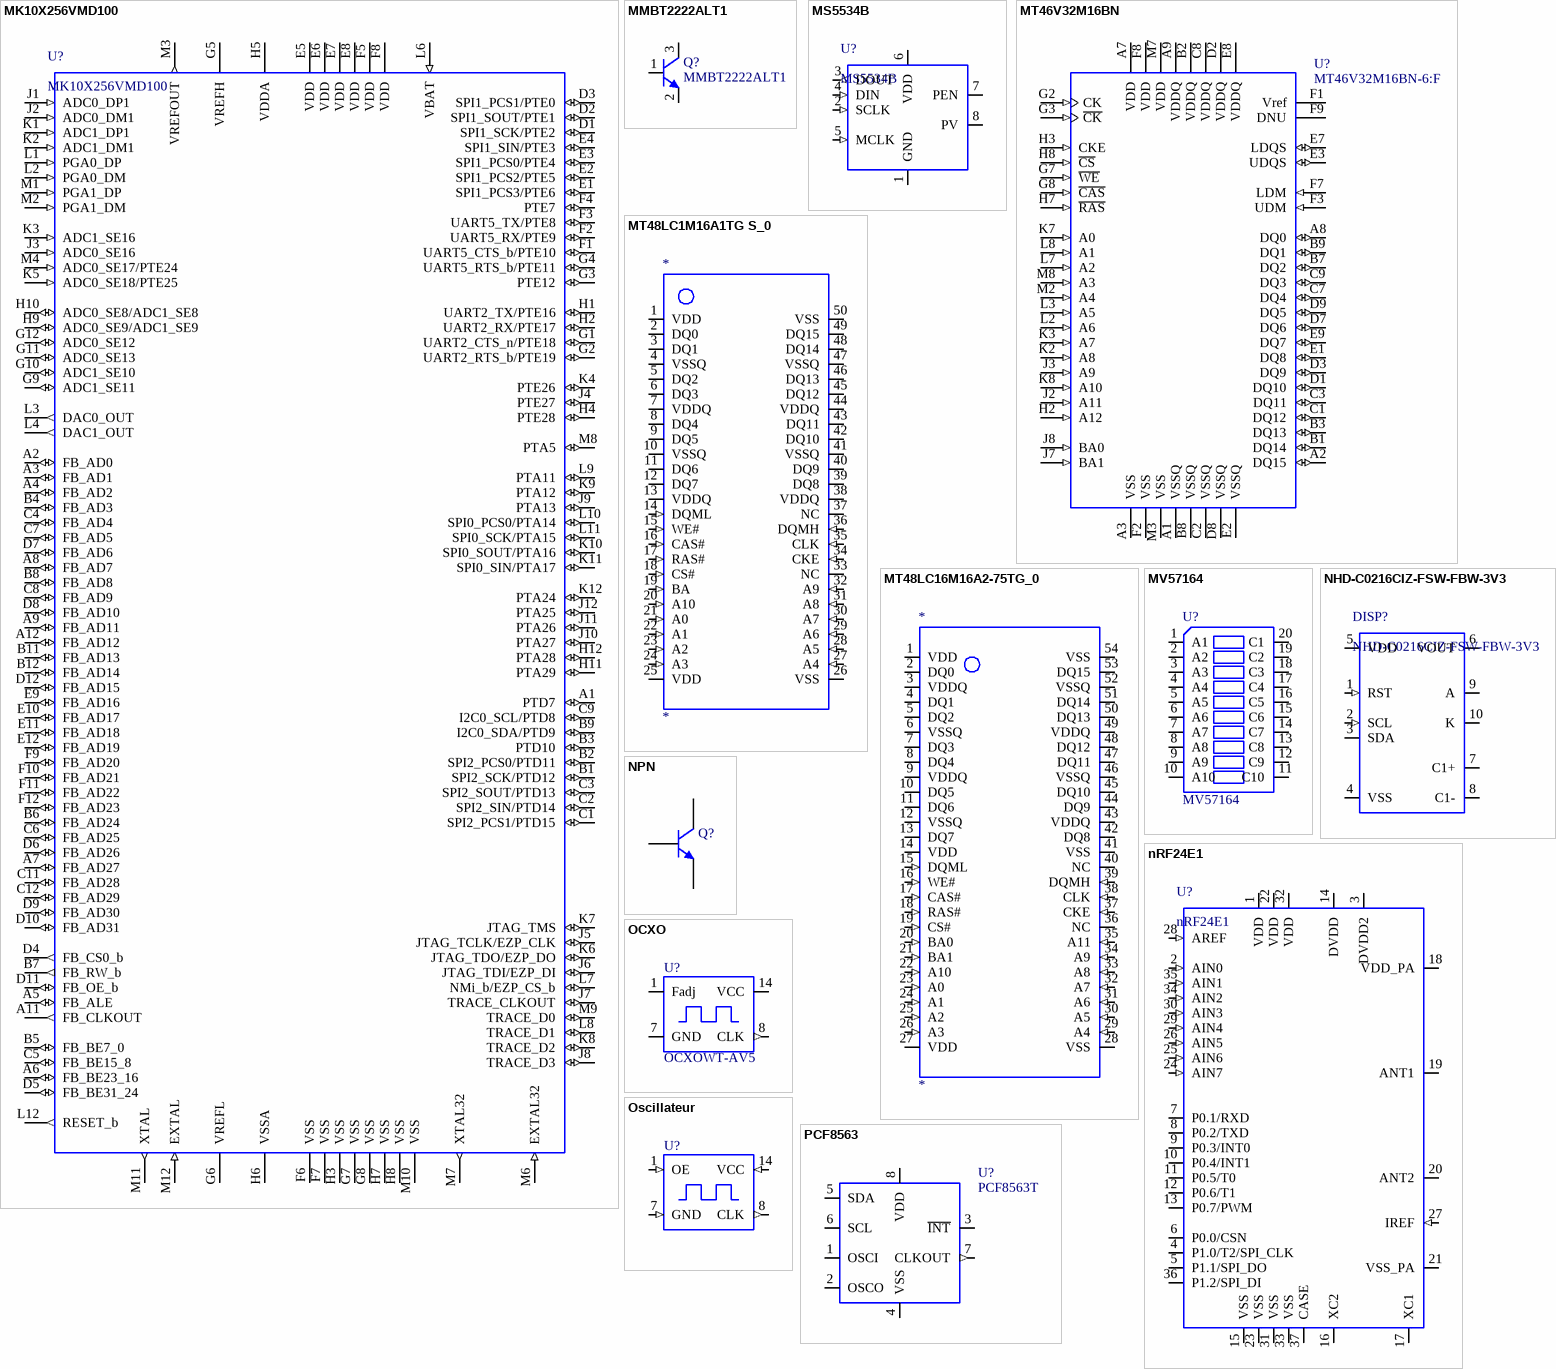
[diagram p10: symbols MK10X256VMD100 to PCF8563]

## MK10X256VMD100
designator U?
footprint MAPBGA144 (BGA, 144-Leads, Body 13x13mm, Pitch 1mm)
pins: A1 PTD7 (io), A2 FB_AD0 (io), A3 FB_AD1 (io), A4 FB_AD2 (io), A5 FB_ALE (io), A6 FB_BE23_16 (io), A7 FB_AD27 (io), A8 FB_AD7 (io), A9 FB_AD11 (io), A11 FB_CLKOUT (out), A12 FB_AD12 (io), B1 SPI2_SCK/PTD12 (io), B2 SPI2_PCS0/PTD11 (io), B3 PTD10 (io), B4 FB_AD3 (io), B5 FB_BE7_0 (io), B6 FB_AD24 (io), B7 FB_RW_b (out), B8 FB_AD8 (io), B9 I2C0_SDA/PTD9 (io), B11 FB_AD13 (io), B12 FB_AD14 (io), C1 SPI2_PCS1/PTD15 (io), C2 SPI2_SIN/PTD14 (io), C3 SPI2_SOUT/PTD13 (io), C4 FB_AD4 (io), C5 FB_BE15_8 (io), C6 FB_AD25 (io), C7 FB_AD5 (io), C8 FB_AD9 (io), C9 I2C0_SCL/PTD8 (io), C11 FB_AD28 (io), C12 FB_AD29 (io), D1 SPI1_SCK/PTE2 (io), D2 SPI1_SOUT/PTE1 (io), D3 SPI1_PCS1/PTE0 (io), D4 FB_CS0_b (out), D5 FB_BE31_24 (io), D6 FB_AD26 (io), D7 FB_AD6 (io), D8 FB_AD10 (io), D9 FB_AD30 (io), D10 FB_AD31 (io), D11 FB_OE_b (io), D12 FB_AD15 (io), E1 SPI1_PCS3/PTE6 (io), E2 SPI1_PCS2/PTE5 (io), E3 SPI1_PCS0/PTE4 (io), E4 SPI1_SIN/PTE3 (io), E5 VDD (power), E6 VDD (power), E7 VDD (power), E8 VDD (power), E9 FB_AD16 (io), E10 FB_AD17 (io), E11 FB_AD18 (io), E12 FB_AD19 (io), F1 UART5_CTS_b/PTE10 (io), F2 UART5_RX/PTE9 (io), F3 UART5_TX/PTE8 (io), F4 PTE7 (io), F5 VDD (power), F6 VSS (power), F7 VSS (power), F8 VDD (power), F9 FB_AD20 (io), F10 FB_AD21 (io), F11 FB_AD22 (io), F12 FB_AD23 (io), G1 UART2_CTS_n/PTE18 (io), G2 UART2_RTS_b/PTE19 (io), G3 PTE12 (io), G4 UART5_RTS_b/PTE11 (io), G5 VREFH, G6 VREFL, G7 VSS (power), G8 VSS (power), G9 ADC1_SE11 (io), G10 ADC1_SE10 (io), G11 ADC0_SE13 (io), G12 ADC0_SE12 (io), H1 UART2_TX/PTE16 (io), H2 UART2_RX/PTE17 (io), H3 VSS (power), H4 PTE28 (io), H5 VDDA (power), H6 VSSA (power), H7 VSS (power), H8 VSS (power), H9 ADC0_SE9/ADC1_SE9 (io), H10 ADC0_SE8/ADC1_SE8 (io), H11 PTA29 (io), H12 PTA28 (io), J1 ADC0_DP1 (in), J2 ADC0_DM1 (in), J3 ADC0_SE16 (in), J4 PTE27 (io), J5 JTAG_TCLK/EZP_CLK (io), J6 JTAG_TDI/EZP_DI (io), J7 TRACE_CLKOUT (io), J8 TRACE_D3 (io), J9 PTA13 (io), J10 PTA27 (io), J11 PTA26 (io), J12 PTA25 (io), K1 ADC1_DP1 (in), K2 ADC1_DM1 (in), K3 ADC1_SE16 (in), K4 PTE26 (io), K5 ADC0_SE18/PTE25 (in), K6 JTAG_TDO/EZP_DO (io), K7 JTAG_TMS (io), K8 TRACE_D2 (io), K9 PTA12 (io), K10 SPI0_SOUT/PTA16 (io), K11 SPI0_SIN/PTA17 (io), K12 PTA24 (io), L1 PGA0_DP (in), L2 PGA0_DM (in), L3 DAC0_OUT (out), L4 DAC1_OUT (out), L6 VBAT (in), L7 NMi_b/EZP_CS_b (io), L8 TRACE_D1 (io), L9 PTA11 (io), L10 SPI0_PCS0/PTA14 (io), L11 SPI0_SCK/PTA15 (io), L12 RESET_b (out), M1 PGA1_DP (in), M2 PGA1_DM (in), M3 VREFOUT (out), M4 ADC0_SE17/PTE24 (in), M6 EXTAL32 (in), M7 XTAL32 (out), M8 PTA5 (io), M9 TRACE_D0 (io), M10 VSS (power), M11 XTAL (out), M12 EXTAL (in)

## MMBT2222ALT1
designator Q?
NPN Bipolar Transistor; Manufacturer: ON Semiconductor; Class I: Discrete; Revision: July-2002: Re-released for DXP Platform.; Class II: NPN
footprint SOT2301
pins: 1 B, 2 E, 3 C

## MS5534B
designator U?
Barometer Module
footprint MS5534B (Barometer Module)
pins: 1 GND (power), 2 SCLK (in), 3 DOUT (out), 4 DIN (in), 5 MCLK (in), 6 VDD (power), 7 PEN, 8 PV

## MT46V32M16BN
designator U?, comment MT46V32M16BN-6:F
256Mb Synchronous High-Speed CMOS DRAM, 32Mb x 16Bit x 4 Banks, DDR SDRAM 512MB 60-FBGA
footprint FBGA60 (60-Ball FBGA Micron 10 x 12.5mm)
pins: A1 VSSQ (power) "DQ Ground", A2 DQ15 (io) "Data Input/Output 15", A3 VSS (power) "Ground", A7 VDD (power) "Power Supply", A8 DQ0 (io) "Data Input/Output 0", A9 VDDQ (power) "DQ Power", B1 DQ14 (io) "Data Input/Output 14", B2 VDDQ (power) "DQ Power", B3 DQ13 (io) "Data Input/Output 13", B7 DQ2 (io) "Data Input/Output 2", B8 VSSQ (power) "DQ Ground", B9 DQ1 (io) "Data Input/Output 1", C1 DQ12 (io) "Data Input/Output 12", C2 VSSQ (power) "DQ Ground", C3 DQ11 (io) "Data Input/Output 11", C7 DQ4 (io) "Data Input/Output 4", C8 VDDQ (power) "DQ Power", C9 DQ3 (io) "Data Input/Output 3", D1 DQ10 (io) "Data Input/Output 10", D2 VDDQ (power) "DQ Power", D3 DQ9 (io) "Data Input/Output 9", D7 DQ6 (io) "Data Input/Output 6", D8 VSSQ (power) "DQ Ground", D9 DQ5 (io) "Data Input/Output 5", E1 DQ8 (io) "Data Input/Output 8", E2 VSSQ (power) "DQ Ground", E3 UDQS (io), E7 LDQS (io), E8 VDDQ (power) "DQ Power", E9 DQ7 (io) "Data Input/Output 7", F1 Vref, F2 VSS (power) "Ground", F3 UDM (in) "Input/Output Mask for DQ8-DQ15", F7 LDM (in) "Input/Output Mask for DQ0-DQ7", F8 VDD (power) "Power Supply", F9 DNU "No Connect", G2 CK (in) "Clock", G3 ~{CK} (in) "Clock", G7 ~{WE} (in) "Command Input", G8 ~{CAS} (in) "Command Input", H2 A12 (in) "Address Input 12", H3 CKE (in) "Clock Enable", H7 ~{RAS} (in) "Command Input", H8 ~{CS} (in) "Chip Select", J2 A11 (in) "Address Input 11", J3 A9 (in) "Address Input 9", J7 BA1 (in) "Bank Address Input 1", J8 BA0 (in) "Bank Address Input 0", K2 A8 (in) "Address Input 8", K3 A7 (in) "Address Input 7", K7 A0 (in) "Address Input 0", K8 A10 (in) "Address Input 10", L2 A6 (in) "Address Input 6", L3 A5 (in) "Address Input 5", L7 A2 (in) "Address Input 2", L8 A1 (in) "Address Input 1", M2 A4 (in) "Address Input 4", M3 VSS (power) "Ground", M7 VDD (power) "Power Supply", M8 A3 (in) "Address Input 3"

## MT48LC1M16A1TG S_0
designator *
Right: 110; Bottom: 290
pins: 1 VDD, 2 DQ0 (io), 3 DQ1 (io), 4 VSSQ, 5 DQ2 (io), 6 DQ3 (io), 7 VDDQ, 8 DQ4 (io), 9 DQ5 (io), 10 VSSQ, 11 DQ6 (io), 12 DQ7 (io), 13 VDDQ, 14 DQML (in), 15 WE# (in), 16 CAS# (in), 17 RAS# (in), 18 CS# (in), 19 BA (in), 20 A10 (in), 21 A0 (in), 22 A1 (in), 23 A2 (in), 24 A3 (in), 25 VDD, 26 VSS, 27 A4 (in), 28 A5 (in), 29 A6 (in), 30 A7 (in), 31 A8 (in), 32 A9 (in), 33 NC, 34 CKE (in), 35 CLK (in), 36 DQMH (in), 37 NC, 38 VDDQ, 39 DQ8 (io), 40 DQ9 (io), 41 VSSQ, 42 DQ10 (io), 43 DQ11 (io), 44 VDDQ, 45 DQ12 (io), 46 DQ13 (io), 47 VSSQ, 48 DQ14 (io), 49 DQ15 (io), 50 VSS

## MT48LC16M16A2-75TG_0
designator *
Right: 120; Bottom: 300
pins: 1 VDD, 2 DQ0 (io), 3 VDDQ, 4 DQ1 (io), 5 DQ2 (io), 6 VSSQ, 7 DQ3 (io), 8 DQ4 (io), 9 VDDQ, 10 DQ5 (io), 11 DQ6 (io), 12 VSSQ, 13 DQ7 (io), 14 VDD, 15 DQML (in), 16 WE# (in), 17 CAS# (in), 18 RAS# (in), 19 CS# (in), 20 BA0 (in), 21 BA1 (in), 22 A10 (in), 23 A0 (in), 24 A1 (in), 25 A2 (in), 26 A3 (in), 27 VDD, 28 VSS, 29 A4 (in), 30 A5 (in), 31 A6 (in), 32 A7 (in), 33 A8 (in), 34 A9 (in), 35 A11 (in), 36 NC, 37 CKE (in), 38 CLK (in), 39 DQMH (in), 40 NC, 41 VSS, 42 DQ8 (io), 43 VDDQ, 44 DQ9 (io), 45 DQ10 (io), 46 VSSQ, 47 DQ11 (io), 48 DQ12 (io), 49 VDDQ, 50 DQ13 (io), 51 DQ14 (io), 52 VSSQ, 53 DQ15 (io), 54 VSS

## MV57164
designator U?
Bargraph display
footprint MV57164 (Bargraphe display)
pins: 1 A1, 2 A2, 3 A3, 4 A4, 5 A5, 6 A6, 7 A7, 8 A8, 9 A9, 10 A10, 11 C10, 12 C9, 13 C8, 14 C7, 15 C6, 16 C5, 17 C4, 18 C3, 19 C2, 20 C1

## NHD-C0216CIZ-FSW-FBW-3V3
designator DISP?
pins: 1 RST (in), 2 SCL (in), 3 SDA (io), 4 VSS (power), 5 VDD (power), 6 VOUT, 7 C1+, 8 C1-, 9 A, 10 K

## NPN
designator Q?
NPN Bipolar Transistor; Manufacturer: Generic Components; Class I: Discrete; Class II: BJT - Low Power; Published: 8-Jun-2000; Revision: July-2002: Re-released for DXP Platform.; Publisher: Altium Limited
footprint BCY-W3 (TO-226-AA)
simulation model NPN
signal-integrity model NPN
pins: 1 C, 2 B, 3 E

## nRF24E1
designator U?
2.4GHz RF transceiver with microcontroller
footprint QFN36 (QFN, 36-Leads, Body 6x6mm, Pitch 0.5mm, IPC Medium Density)
pins: 1 VDD (power), 2 AIN0 (in), 3 DVDD2 (power), 4 P1.0/T2/SPI_CLK (io), 5 P1.1/SPI_DO (io), 6 P0.0/CSN (io), 7 P0.1/RXD (io), 8 P0.2/TXD (io), 9 P0.3/INT0 (io), 10 P0.4/INT1 (io), 11 P0.5/T0 (io), 12 P0.6/T1 (io), 13 P0.7/PWM (io), 14 DVDD (power), 15 VSS (power), 16 XC2, 17 XC1, 18 VDD_PA (power), 19 ANT1, 20 ANT2, 21 VSS_PA (power), 22 VDD (power), 23 VSS (power), 24 AIN7 (in), 25 AIN6 (in), 26 AIN5 (in), 27 IREF (in), 28 AREF (in), 29 AIN4 (in), 30 AIN3 (in), 31 VSS (power), 32 VDD (power), 33 VSS (power), 34 AIN2 (in), 35 AIN1 (in), 36 P1.2/SPI_DI (io), 37 CASE (power)

## OCXO
designator U?, comment OCXOWT-AV5
OCXO; Value: 10MHz
footprint OSC03 (OCXOWT Microcrystal 20.14 x 12.52mm)
pins: 1 Fadj, 7 GND (power), 8 CLK (out), 14 VCC (power)

## Oscillateur
designator U?
Oscillateur; Right: 60; Bottom: 60
footprint OSC02 (Oscillateur SMD)
pins: 1 OE (in), 7 GND (in), 8 CLK (out), 14 VCC (in)

## PCF8563
designator U?, comment PCF8563T
Real-time clock/calendar
footprint SO801
pins: 1 OSCI, 2 OSCO, 3 ~{INT} (oc), 4 VSS (power), 5 SDA (io), 6 SCL (io), 7 CLKOUT (out), 8 VDD (power)

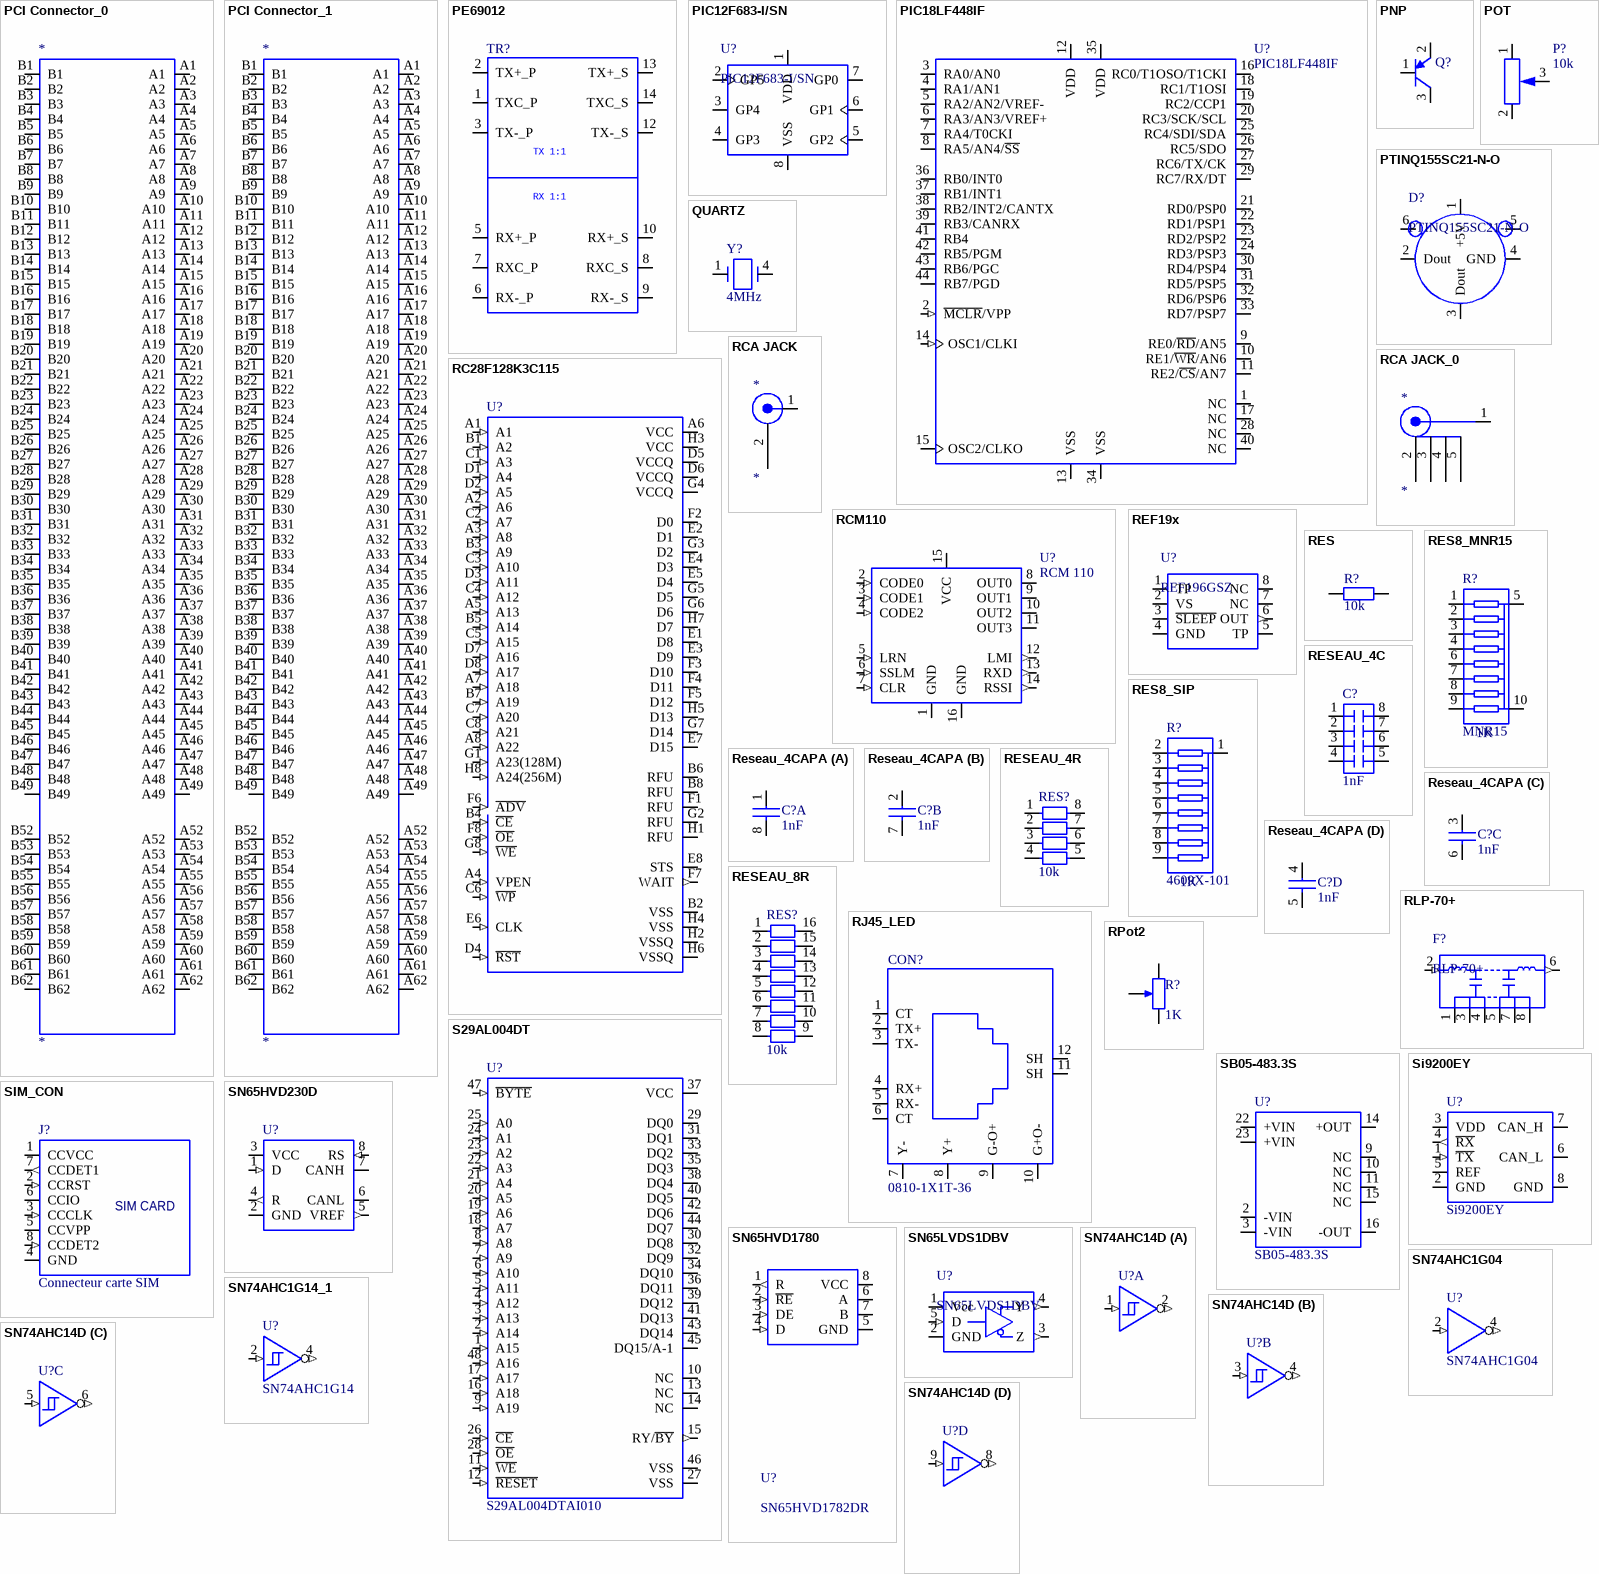
[diagram p11: symbols PCI Connector_0 to SN74AHC14D]

## PCI Connector_0
designator *
Right: 90; Bottom: 650
pins: A1, A2, A3, A4, A5, A6, A7, A8, A9, A10, A11, A12, A13, A14, A15, A16, A17, A18, A19, A20, A21, A22, A23, A24, A25, A26, A27, A28, A29, A30, A31, A32, A33, A34, A35, A36, A37, A38, A39, A40, A41, A42, A43, A44, A45, A46, A47, A48, A49, A52, A53, A54, A55, A56, A57, A58, A59, A60, A61, A62, B1, B2, B3, B4, B5, B6, B7, B8, B9, B10, B11, B12, B13, B14, B15, B16, B17, B18, B19, B20, B21, B22, B23, B24, B25, B26, B27, B28, B29, B30, B31, B32, B33, B34, B35, B36, B37, B38, B39, B40, B41, B42, B43, B44, B45, B46, B47, B48, B49, B52, B53, B54, B55, B56, B57, B58, B59, B60, B61, B62

## PCI Connector_1
designator *
Right: 90; Bottom: 650
pins: A1, A2, A3, A4, A5, A6, A7, A8, A9, A10, A11, A12, A13, A14, A15, A16, A17, A18, A19, A20, A21, A22, A23, A24, A25, A26, A27, A28, A29, A30, A31, A32, A33, A34, A35, A36, A37, A38, A39, A40, A41, A42, A43, A44, A45, A46, A47, A48, A49, A52, A53, A54, A55, A56, A57, A58, A59, A60, A61, A62, B1, B2, B3, B4, B5, B6, B7, B8, B9, B10, B11, B12, B13, B14, B15, B16, B17, B18, B19, B20, B21, B22, B23, B24, B25, B26, B27, B28, B29, B30, B31, B32, B33, B34, B35, B36, B37, B38, B39, B40, B41, B42, B43, B44, B45, B46, B47, B48, B49, B52, B53, B54, B55, B56, B57, B58, B59, B60, B61, B62

## PE69012
designator TR?
DEVICE: PE69012; Right: 100; Bottom: 170; SOCKET: NO
pins: 1 TXC_P, 2 TX+_P, 3 TX-_P, 5 RX+_P, 6 RX-_P, 7 RXC_P, 8 RXC_S, 9 RX-_S, 10 RX+_S, 12 TX-_S, 13 TX+_S, 14 TXC_S
text: TX 1:1; RX 1:1

## PIC12F683-I/SN
designator U?
Flash-Based 8-Bit CMOS Microcontroller with nanoWatt Technology, 2K (x14-Bit words) Program Memory, 384 Bytes Data Memory, 8-Pin SOIC, Industrial Temperature; Supplier 1: Digi-Key; Supplier Part Number 1: PIC12F683-I/SN-ND; Supplier 2: Farnell; Supplier Part Number 2: 1660012; Supplier 3: Farnell; Supplier Part Number 3: 9759042
footprint SOIC-SN8_N (SOIC, 8-Leads, Body 4.9x3.8mm, Pitch 1.27mm, IPC Medium Density)
footprint SOIC-SN8_L (SOIC, 8-Leads, Body 4.9x3.8mm, Pitch 1.27mm, IPC High Density)
footprint SOIC-SN8_M (SOIC, 8-Leads, Body 4.9x3.8mm, Pitch 1.27mm, IPC Low Density)
pins: 1 VDD (power), 2 GP5 (io), 3 GP4 (io), 4 GP3 (io), 5 GP2 (io), 6 GP1 (io), 7 GP0 (io), 8 VSS (power)

## PIC18LF448IF
designator U?
Microcontroller; Manufacturer: Microchip; Class II: 8-bit; Revision: July-2002: Re-released for DXP Platform.; Class I: Microcontroller
pins: 1 NC, 2 ~{MCLR}/VPP (in), 3 RA0/AN0 (io), 4 RA1/AN1 (io), 5 RA2/AN2/VREF- (io), 6 RA3/AN3/VREF+ (io), 7 RA4/T0CKI (io), 8 RA5/AN4/~{SS} (io), 9 RE0/~{RD}/AN5 (io), 10 RE1/~{WR}/AN6 (io), 11 RE2/~{CS}/AN7 (io), 12 VDD (power), 13 VSS (power), 14 OSC1/CLKI (in), 15 OSC2/CLKO (io), 16 RC0/T1OSO/T1CKI (io), 17 NC, 18 RC1/T1OSI (io), 19 RC2/CCP1 (io), 20 RC3/SCK/SCL (io), 21 RD0/PSP0 (io), 22 RD1/PSP1 (io), 23 RD2/PSP2 (io), 24 RD3/PSP3 (io), 25 RC4/SDI/SDA (io), 26 RC5/SDO (io), 27 RC6/TX/CK (io), 28 NC, 29 RC7/RX/DT (io), 30 RD4/PSP4 (io), 31 RD5/PSP5 (io), 32 RD6/PSP6 (io), 33 RD7/PSP7 (io), 34 VSS (power), 35 VDD (power), 36 RB0/INT0 (io), 37 RB1/INT1 (io), 38 RB2/INT2/CANTX (io), 39 RB3/CANRX (io), 40 NC, 41 RB4 (io), 42 RB5/PGM (io), 43 RB6/PGC (io), 44 RB7/PGD (io)

## PNP
designator Q?
PNP Bipolar Transistor; Manufacturer: Generic Components; Class I: Discrete; Class II: BJT - Low Power; Published: 8-Jun-2000; Revision: July-2002: Re-released for DXP Platform.; Publisher: Altium Limited
footprint SO-G3/C2.5 (SOT-23)
simulation model PNP
signal-integrity model PNP
pins: 1 B, 2 E, 3 C

## POT
designator P?, comment 10k
Potentiomètre; Right: 20; Bottom: 30; Value: 10k
pins: 1, 2, 3

## PTINQ155SC21-N-O
designator D?
InGaAs PIN TIA Receivers
footprint PTINQ155SC21-N-O
pins: 1 +5V, 2 Dout, 3 Dout, 4 GND (power), 5 H1 (power), 6 H2 (power)

## QUARTZ
designator Y?, comment 4MHz
Quartz; Right: 20; Bottom: 20; Value: 4MHz
footprint XT-2
pins: 1, 2 NC (oc) hidden, 3 NC (oc) hidden, 4

## RC28F128K3C115
designator U?
128Mbit Synchronous Flash Memory; Right: 130; Bottom: 270
pins: A1 (in), A2 A6 (in), A3 A8 (in), A4 VPEN (in), A5 A13 (in), A6 VCC (power), A7 A18 (in), A8 A22 (in), B1 A2 (in), B2 VSS (power), B3 A9 (in), B4 ~{CE} (in), B5 A14 (in), B6 RFU, B7 A19 (in), B8 RFU, C1 A3 (in), C2 A7 (in), C3 A10 (in), C4 A12 (in), C5 A15 (in), C6 ~{WP} (in), C7 A20 (in), C8 A21 (in), D1 A4 (in), D2 A5 (in), D3 A11 (in), D4 ~{RST} (in), D5 VCCQ (power), D6 VCCQ (power), D7 A16 (in), D8 A17 (in), E1 D8 (io), E2 D1 (io), E3 D9 (io), E4 D3 (io), E5 D4 (io), E6 CLK (in), E7 D15 (io), E8 STS (oc), F1 RFU, F2 D0 (io), F3 D10 (io), F4 D11 (io), F5 D12 (io), F6 ~{ADV} (in), F7 WAIT (out), F8 ~{OE} (in), G1 A23(128M) (in), G2 RFU, G3 D2 (io), G4 VCCQ (power), G5 D5 (io), G6 D6 (io), G7 D14 (io), G8 ~{WE} (in), H1 RFU, H2 VSSQ (power), H3 VCC (power), H4 VSS (power), H5 D13 (io), H6 VSSQ (power), H7 D7 (io), H8 A24(256M) (in)

## RCA JACK
designator *
Right: 20; Bottom: 20
pins: 1 CENTER, 2 SHIELD

## RCA JACK_0
designator *
Right: 50; Bottom: 20
pins: 1 CENTER, 2 SHIELD, 3 SHIELD, 4 SHIELD, 5 SHIELD

## RCM110
designator U?, comment RCM 110
RF Receiver Module
footprint RCM110_C (RF Receiver Module (Couché))
pins: 1 GND (power), 2 CODE0 (in), 3 CODE1 (in), 4 CODE2 (in), 5 LRN (in), 6 SSLM (in), 7 CLR (in), 8 OUT0 (oc), 9 OUT1 (oc), 10 OUT2 (oc), 11 OUT3 (oc), 12 LMI (out), 13 RXD (out), 14 RSSI (out), 15 VCC (power), 16 GND (power)

## REF19x
designator U?, comment REF196GSZ
IC VOLT REFERENCE LDO 3.3V 8SOIC
footprint SO801
pins: 1 TP, 2 VS (power), 3 ~{SLEEP}, 4 GND (power), 5 TP, 6 OUT (out), 7 NC, 8 NC

## RES
designator R?  value 10k
Resistance; Class I: Passive; Class II: Resistor; Revision: July-2002: Re-released for DXP Platform.
pins: 1, 2

## RES8_MNR15
designator R?, comment MNR15  value 1K
Compact 8-element Chip Resistor Networks
footprint MNR15 (Chip Resistor Networks 3.2 x 1.6mm)
pins: 1, 2, 3, 4, 5, 6, 7, 8, 9, 10

## RES8_SIP
designator R?, comment 4609X-101  value 1K
Réseaux avec 8 résistances, raccordement commun, à 9 pôles
footprint SIP9
pins: 1, 2, 3, 4, 5, 6, 7, 8, 9

## RESEAU_4C
designator C?  value 1nF
Reseau 4 capacités parallèles; Right: 40; Bottom: 50
footprint 4060301
pins: 1, 2, 3, 4, 5, 6, 7, 8

## Reseau_4CAPA
designator C?  value 1nF
Réseau 4 capa séparées; Right: 20; Bottom: 10
part A pins: 1, 8
part B pins: 2, 7
part C pins: 3, 6
part D pins: 4, 5

## RESEAU_4R
designator RES?, comment 10k
Reseau 4 résistances parallèles; Right: 40; Bottom: 50; Value: 10k
footprint 4060301
pins: 1, 2, 3, 4, 5, 6, 7, 8

## RESEAU_8R
designator RES?, comment 10k
Reseau 8 résistances parallèles; Right: 40; Bottom: 50; Value: 10k
footprint 4060301
pins: 1, 2, 3, 4, 5, 6, 7, 8, 9, 10, 11, 12, 13, 14, 15, 16

## RJ45_LED
designator CON?, comment 0810-1X1T-36
Connecteur Ethernet
footprint 0810-1X1T-36 (Connecteur Ethernet)
pins: 1 CT, 2 TX+, 3 TX-, 4 RX+, 5 RX-, 6 CT, 7 Y-, 8 Y+, 9 G-O+, 10 G+O-, 11 SH, 12 SH

## RLP-70+
designator F?
Low Pass Filter 50R DC to 70MHz
footprint RLP-70+
pins: 1 GND (power), 2 IN (in), 3 GND (power), 4 GND (power), 5 GND (power), 6 OUT (out), 7 GND (power), 8 GND (power)

## RPot2
designator R?  value 1K
Potentiometer; Manufacturer: Generic Components; Class I: Passive; Set Position: 0.5; Published: 8-Jun-2000; Revision: July-2002: Re-released for DXP Platform.; Publisher: Altium Limited; Class II: Potentiometer
footprint VR2
simulation model POT (Potentiometer)
pins: 1 TOP, 2 BOT, 3 TAP

## S29AL004DT
designator U?, comment S29AL004DTAI010
518k x 8bit/256k x 16bit 3V Boot Sector Flash Memory
footprint TSSO12x20-G48/P.5
pins: 1 A15 (in), 2 A14 (in), 3 A13 (in), 4 A12 (in), 5 A11 (in), 6 A10 (in), 7 A9 (in), 8 A8 (in), 9 A19 (in), 10 NC, 11 ~{WE} (in), 12 ~{RESET} (in), 13 NC, 14 NC, 15 RY/~{BY} (out), 16 A18 (in), 17 A17 (in), 18 A7 (in), 19 A6 (in), 20 A5 (in), 21 A4 (in), 22 A3 (in), 23 A2 (in), 24 A1 (in), 25 A0 (in), 26 ~{CE} (in), 27 VSS (power), 28 ~{OE} (in), 29 DQ0 (io), 30 DQ8 (io), 31 DQ1 (io), 32 DQ9 (io), 33 DQ2 (io), 34 DQ10 (io), 35 DQ3 (io), 36 DQ11 (io), 37 VCC (power), 38 DQ4 (io), 39 DQ12 (io), 40 DQ5 (io), 41 DQ13 (io), 42 DQ6 (io), 43 DQ14 (io), 44 DQ7 (io), 45 DQ15/A-1 (io), 46 VSS (power), 47 ~{BYTE} (in), 48 A16 (in)

## SB05-483.3S
designator U?
DC/DC converter
pins: 2 -VIN (power), 3 -VIN (power), 9 NC, 10 NC, 11 NC, 14 +OUT (power), 15 NC, 16 -OUT (power), 22 +VIN (power), 23 +VIN (power)

## Si9200EY
designator U?
CAN Bus Driver
footprint SO801
pins: 1 ~{TX} (in), 2 GND (power), 3 VDD (power), 4 ~{RX} (out), 5 REF, 6 CAN_L (io), 7 CAN_H (io), 8 GND (power)

## SIM_CON
designator J?, comment Connecteur carte SIM
footprint SIM_ODU6 (Connecteur carte SIM)
pins: 1 CCVCC (power), 2 CCRST (in), 3 CCCLK (in), 4 GND (power), 5 CCVPP (power), 6 CCIO (io), 7 CCDET1 (out), 8 CCDET2 (in)
text: SIM CARD

## SN65HVD230D
designator U?
CAN Transceiver
footprint SO801
pins: 1 D (in), 2 GND (power), 3 VCC (power), 4 R (out), 5 VREF (out), 6 CANL (io), 7 CANH (io), 8 RS (in)

## SN65HVD1780
designator U?, comment SN65HVD1782DR
IC TXRX RS485 FAULT-PROT 8-SOIC
footprint SO801
pins: 1 R (out), 2 ~{RE} (in), 3 DE (in), 4 D (in), 5 GND (power), 6 A (io), 7 B (io), 8 VCC (power)

## SN65LVDS1DBV
designator U?
footprint SOT23-5 (SOT-23/SC-74A; 5 Leads; Body 3 x 3 mm, inc. leads (LxW max))
pins: 1 Vcc (power), 2 GND (power), 3 Z (out), 4 Y (out), 5 D (in)

## SN74AHC1G04
designator U?
footprint SOT23501
pins: 2 A (in), 3 GND (power) hidden to GND, 4 Y (out), 5 VCC (power) hidden to +3V3

## SN74AHC1G14_1
designator U?, comment SN74AHC1G14
footprint SOT23501
pins: 2 A (in), 3 GND (power) hidden to GND, 4 Y (out), 5 VCC (power) hidden to +3V3

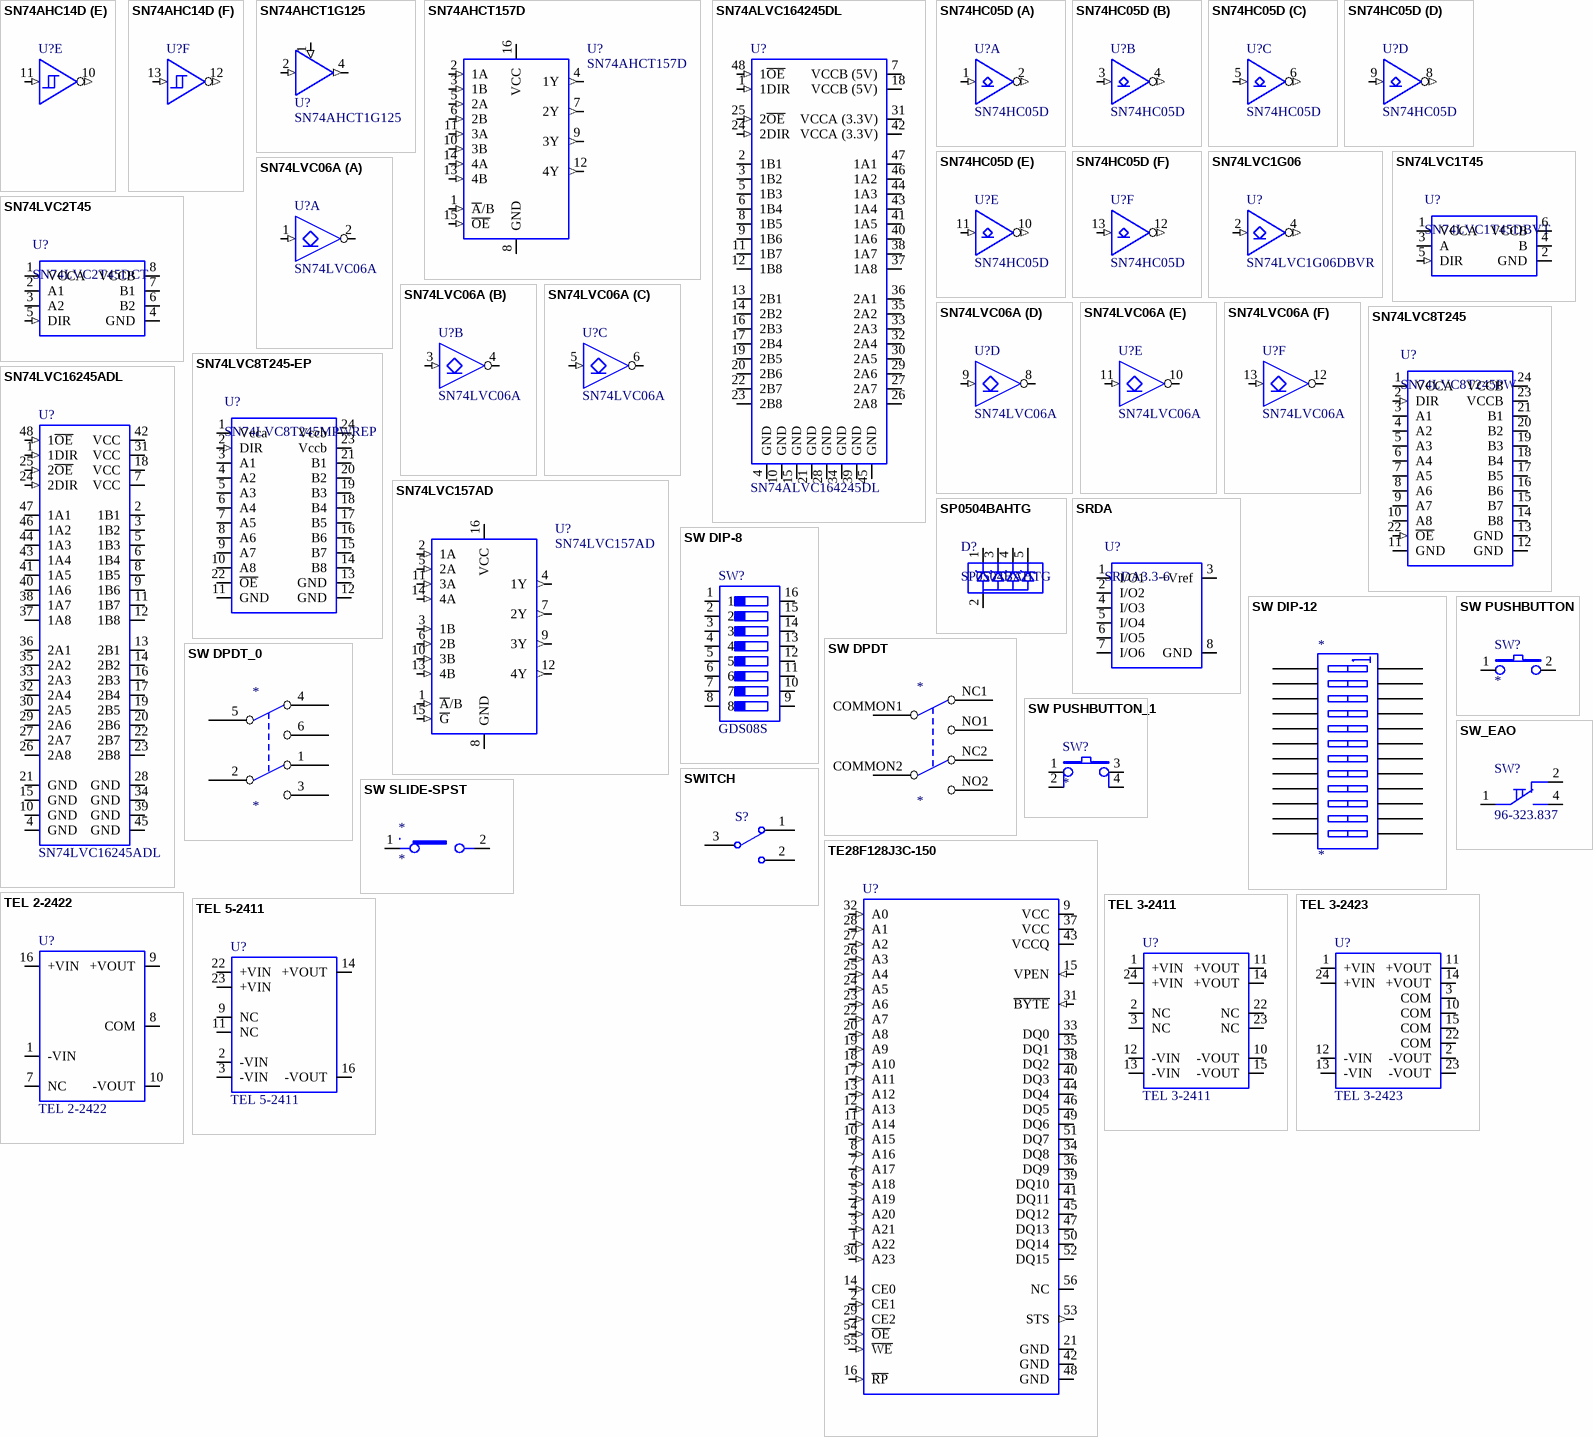
[diagram p12: symbols SN74AHC14D to TEL 5-2411]

## SN74AHC14D
designator U?
footprint SO1401
part A pins: 1 (in), 2 (out), 7 GND (power) hidden to GND, 14 VCC (power) hidden to +3V3
part B pins: 3 (in), 4 (out)
part C pins: 5 (in), 6 (out)
part D pins: 8 (out), 9 (in)
part E pins: 10 (out), 11 (in)
part F pins: 12 (out), 13 (in)

## SN74AHCT1G125
designator U?
footprint SOT23501
pins: 1 ~{OE} (in), 2 A (in), 3 GND (power) hidden to GND, 4 Y (out), 5 VCC (power) hidden to +3V3

## SN74AHCT157D
designator U?
Quadruple 2-Line to 1-Line Data Selector/Multiplexer
3D model D016 (Small Outline; 16 Leads; Body Width 3.9 mm; Pitch 1.27 mm)
footprint SO1602 (Small Outline; 16 Leads; Body Width 3.9 mm; Pitch 1.27 mm)
pins: 1 ~{A}/B (in), 2 1A (in), 3 1B (in), 4 1Y (out), 5 2A (in), 6 2B (in), 7 2Y (out), 8 GND (power), 9 3Y (out), 10 3B (in), 11 3A (in), 12 4Y (out), 13 4B (in), 14 4A (in), 15 ~{OE} (in), 16 VCC (power)

## SN74ALVC164245DL
designator U?
16-Bit 3.3-V to 5-V Level Shifting Transceiver with 3-State Outputs
footprint SSOP48 (SSOP; 48 Leads; Body Width 7.5 mm; Pitch 0.635 mm)
pins: 1 1DIR (in), 2 1B1 (io), 3 1B2 (io), 4 GND (power), 5 1B3 (io), 6 1B4 (io), 7 VCCB (5V) (power), 8 1B5 (io), 9 1B6 (io), 10 GND (power), 11 1B7 (io), 12 1B8 (io), 13 2B1 (io), 14 2B2 (io), 15 GND (power), 16 2B3 (io), 17 2B4 (io), 18 VCCB (5V) (power), 19 2B5 (io), 20 2B6 (io), 21 GND (power), 22 2B7 (io), 23 2B8 (io), 24 2DIR (in), 25 2~{OE} (in), 26 2A8 (io), 27 2A7 (io), 28 GND (power), 29 2A6 (io), 30 2A5 (io), 31 VCCA (3.3V) (power), 32 2A4 (io), 33 2A3 (io), 34 GND (power), 35 2A2 (io), 36 2A1 (io), 37 1A8 (io), 38 1A7 (io), 39 GND (power), 40 1A6 (io), 41 1A5 (io), 42 VCCA (3.3V) (power), 43 1A4 (io), 44 1A3 (io), 45 GND (power), 46 1A2 (io), 47 1A1 (io), 48 1~{OE} (in)

## SN74HC05D
designator U?
Hex inverter open drain
footprint SO1401
part A pins: 1 (in), 2 (out), 7 GND (power) hidden to GND, 14 VCC (power) hidden to +3V3
part B pins: 3 (in), 4 (out)
part C pins: 5 (in), 6 (out)
part D pins: 8 (out), 9 (in)
part E pins: 10 (out), 11 (in)
part F pins: 12 (out), 13 (in)

## SN74LVC1G06
designator U?, comment SN74LVC1G06DBVR
IC SINGLE INVERTER OPEN DRAIN SOT235
footprint SOT23501
pins: 2 A (in), 3 GND (power) hidden to GND, 4 Y (out), 5 VCC (power) hidden to +3V3

## SN74LVC1T45
designator U?, comment SN74LVC1T45DBVT
SINGLE-BIT DUAL-SUPPLY BUS TRANSCEIVER; Manufacturer: Texas Instruments
footprint SOT23601
pins: 1 VCCA (power), 2 GND (power), 3 A (io), 4 B (io), 5 DIR (in), 6 VCCB (power)

## SN74LVC2T45
designator U?, comment SN74LVC2T45DCT
DUAL-BIT DUAL-SUPPLY BUS TRANSCEIVER; Manufacturer: Texas Instruments
footprint Micro8 (Shrink Small Outline; 8 Leads; Body Width 3 mm; Pitch 0.65 mm)
pins: 1 VCCA (power), 2 A1 (io), 3 A2 (io), 4 GND (power), 5 DIR (in), 6 B2 (io), 7 B1 (io), 8 VCCB (power)

## SN74LVC06A
designator U?
Hex inverter buffer open-drain
footprint SO1401
part A pins: 1 (in), 2 (oc), 7 GND (power) hidden to GND, 14 VCC (power) hidden to +3V3
part B pins: 3 (in), 4 (oc)
part C pins: 5 (in), 6 (oc)
part D pins: 8 (oc), 9 (in)
part E pins: 10 (oc), 11 (in)
part F pins: 12 (oc), 13 (in)

## SN74LVC8T245
designator U?, comment SN74LVC8T245PW
8-Bit Dual-Supply Bus Transceiver with Voltage Translation and Three-State Outputs
footprint TSSOP24 (TSOP, 24-Leads, Body 7.8x4.4mm, Pitch 0.65mm, IPC High Density)
pins: 1 VCCA (power), 2 DIR (in), 3 A1 (io), 4 A2 (io), 5 A3 (io), 6 A4 (io), 7 A5 (io), 8 A6 (io), 9 A7 (io), 10 A8 (io), 11 GND (power), 12 GND (power), 13 GND (power), 14 B8 (io), 15 B7 (io), 16 B6 (io), 17 B5 (io), 18 B4 (io), 19 B3 (io), 20 B2 (io), 21 B1 (io), 22 ~{OE} (in), 23 VCCB (power), 24 VCCB (power)

## SN74LVC8T245-EP
designator U?, comment SN74LVC8T245MPWREP
footprint TSSOP24 (TSOP, 24-Leads, Body 7.8x4.4mm, Pitch 0.65mm, IPC High Density)
pins: 1 Vcca (power), 2 DIR (in), 3 A1 (io), 4 A2 (io), 5 A3 (io), 6 A4 (io), 7 A5 (io), 8 A6 (io), 9 A7 (io), 10 A8 (io), 11 GND (power), 12 GND (power), 13 GND (power), 14 B8 (io), 15 B7 (io), 16 B6 (io), 17 B5 (io), 18 B4 (io), 19 B3 (io), 20 B2 (io), 21 B1 (io), 22 ~{OE} (io), 23 Vccb (power), 24 Vccb (power)

## SN74LVC157AD
designator U?
Quadruple 2-Line to 1-Line Data Selector/Multiplexer
3D model D016 (Small Outline; 16 Leads; Body Width 3.9 mm; Pitch 1.27 mm)
footprint SO1602 (Small Outline; 16 Leads; Body Width 3.9 mm; Pitch 1.27 mm)
pins: 1 ~{A}/B (in), 2 1A (in), 3 1B (in), 4 1Y (out), 5 2A (in), 6 2B (in), 7 2Y (out), 8 GND (power), 9 3Y (out), 10 3B (in), 11 3A (in), 12 4Y (out), 13 4B (in), 14 4A (in), 15 ~{G} (in), 16 VCC (power)

## SN74LVC16245ADL
designator U?
16-Bit Bus Transceiver with 3-State Outputs
footprint SSOP48 (SSOP; 48 Leads; Body Width 7.5 mm; Pitch 0.635 mm)
pins: 1 1DIR (in), 2 1B1 (io), 3 1B2 (io), 4 GND (power), 5 1B3 (io), 6 1B4 (io), 7 VCC (power), 8 1B5 (io), 9 1B6 (io), 10 GND (power), 11 1B7 (io), 12 1B8 (io), 13 2B1 (io), 14 2B2 (io), 15 GND (power), 16 2B3 (io), 17 2B4 (io), 18 VCC (power), 19 2B5 (io), 20 2B6 (io), 21 GND (power), 22 2B7 (io), 23 2B8 (io), 24 2DIR (in), 25 2~{OE} (in), 26 2A8 (io), 27 2A7 (io), 28 GND (power), 29 2A6 (io), 30 2A5 (io), 31 VCC (power), 32 2A4 (io), 33 2A3 (io), 34 GND (power), 35 2A2 (io), 36 2A1 (io), 37 1A8 (io), 38 1A7 (io), 39 GND (power), 40 1A6 (io), 41 1A5 (io), 42 VCC (power), 43 1A4 (io), 44 1A3 (io), 45 GND (power), 46 1A2 (io), 47 1A1 (io), 48 1~{OE} (in)

## SP0504BAHTG
designator D?
TVS AVAL DIODE ARRAY 4CH SOT23-5, 5.5V
footprint SOT23501
pins: 1 (power), 2 (power), 3 (power), 4 (power), 5 (power)

## SRDA
designator U?, comment SRDA3.3-6
TVS Diode Array
footprint SO801
pins: 1 I/O1, 2 I/O2, 3 +Vref (power), 4 I/O3, 5 I/O4, 6 I/O5, 7 I/O6, 8 GND (power)

## SW DIP-8
designator SW?, comment GDS08S
DIL Switches 8 pôles
footprint GDS08
pins: 1, 2, 3, 4, 5, 6, 7, 8, 9, 10, 11, 12, 13, 14, 15, 16

## SW DIP-12
designator *
Right: 40; Bottom: 130
pins: 1 A1, 2 A2, 3 A3, 4 A4, 5 A5, 6 A6, 7 A7, 8 A8, 9 A9, 10 A10, 11 A11, 12 A12, 13 B12, 14 B11, 15 B10, 16 B9, 17 B8, 18 B7, 19 B6, 20 B5, 21 B4, 22 B3, 23 B2, 24 B1

## SW DPDT
designator *
Right: 20; Bottom: 80
pins: COMMON1, COMMON2, NC1, NC2, NO1, NO2

## SW DPDT_0
designator *
Right: 20; Bottom: 80
pins: 1 NC2, 2 COMMON2, 3 NO2, 4 NC1, 5 COMMON1, 6 NO1

## SW PUSHBUTTON
designator SW?
pins: 1, 2

## SW PUSHBUTTON_1
designator SW?
Bouton faible course
pins: 1, 2, 3, 4

## SW SLIDE-SPST
designator *
Right: 50; Bottom: 20
pins: 1, 2 NO

## SW_EAO
designator SW?, comment 96-323.837
Bouton poussoir EAO; Type: 96-323.837
footprint SW_EAO (Bouton poussoir EAO)
pins: 1, 2, 4

## SWITCH
designator S?
Commutateur 2 positions; Manufacturer: Generic Components; Published: 24-Mar-1999; Revision: July-2002: Re-released for DXP Platform.; Publisher: Altium Limited
footprint SPDT-3 (TO-262-AA)
pins: 1 NC, 2 NO, 3 COMMON

## TE28F128J3C-150
designator U?
8M x 16bit Flash Memory; Right: 130; Bottom: 270
pins: 1 A22 (in), 2 CE1 (in), 3 A21 (in), 4 A20 (in), 5 A19 (in), 6 A18 (in), 7 A17 (in), 8 A16 (in), 9 VCC (power), 10 A15 (in), 11 A14 (in), 12 A13 (in), 13 A12 (in), 14 CE0 (in), 15 VPEN (in), 16 ~{RP} (in), 17 A11 (in), 18 A10 (in), 19 A9 (in), 20 A8 (in), 21 GND (power), 22 A7 (in), 23 A6 (in), 24 A5 (in), 25 A4 (in), 26 A3 (in), 27 A2 (in), 28 A1 (in), 29 CE2 (in), 30 A23 (in), 31 ~{BYTE} (in), 32 A0 (in), 33 DQ0 (io), 34 DQ8 (io), 35 DQ1 (io), 36 DQ9 (io), 37 VCC (power), 38 DQ2 (io), 39 DQ10 (io), 40 DQ3 (io), 41 DQ11 (io), 42 GND (power), 43 VCCQ (power), 44 DQ4 (io), 45 DQ12 (io), 46 DQ5 (io), 47 DQ13 (io), 48 GND (power), 49 DQ6 (io), 50 DQ14 (io), 51 DQ7 (io), 52 DQ15 (io), 53 STS (out), 54 ~{OE} (in), 55 ~{WE} (in), 56 NC

## TEL 2-2422
designator U?
DC/DC converter
pins: 1 -VIN (power), 7 NC (power), 8 COM (power), 9 +VOUT (power), 10 -VOUT (power), 16 +VIN (power)

## TEL 3-2411
designator U?
DC/DC converter
footprint TEL3 (DC/DC TEL3 dual outputs)
pins: 1 +VIN (power), 2 NC, 3 NC, 10 -VOUT (power), 11 +VOUT (power), 12 -VIN (power), 13 -VIN (power), 14 +VOUT (power), 15 -VOUT (power), 22 NC, 23 NC, 24 +VIN (power)

## TEL 3-2423
designator U?
DC/DC converter dual outputs
footprint TEL3 (DC/DC TEL3 dual outputs)
pins: 1 +VIN (power), 2 -VOUT (power), 3 COM (power), 10 COM (power), 11 +VOUT (power), 12 -VIN (power), 13 -VIN (power), 14 +VOUT (power), 15 COM (power), 22 COM (power), 23 -VOUT (power), 24 +VIN (power)

## TEL 5-2411
designator U?
DC/DC converter 5W
footprint TEL5 (DC/DC TEL5)
pins: 2 -VIN (power), 3 -VIN (power), 9 NC, 11 NC, 14 +VOUT (power), 16 -VOUT (power), 22 +VIN (power), 23 +VIN (power)

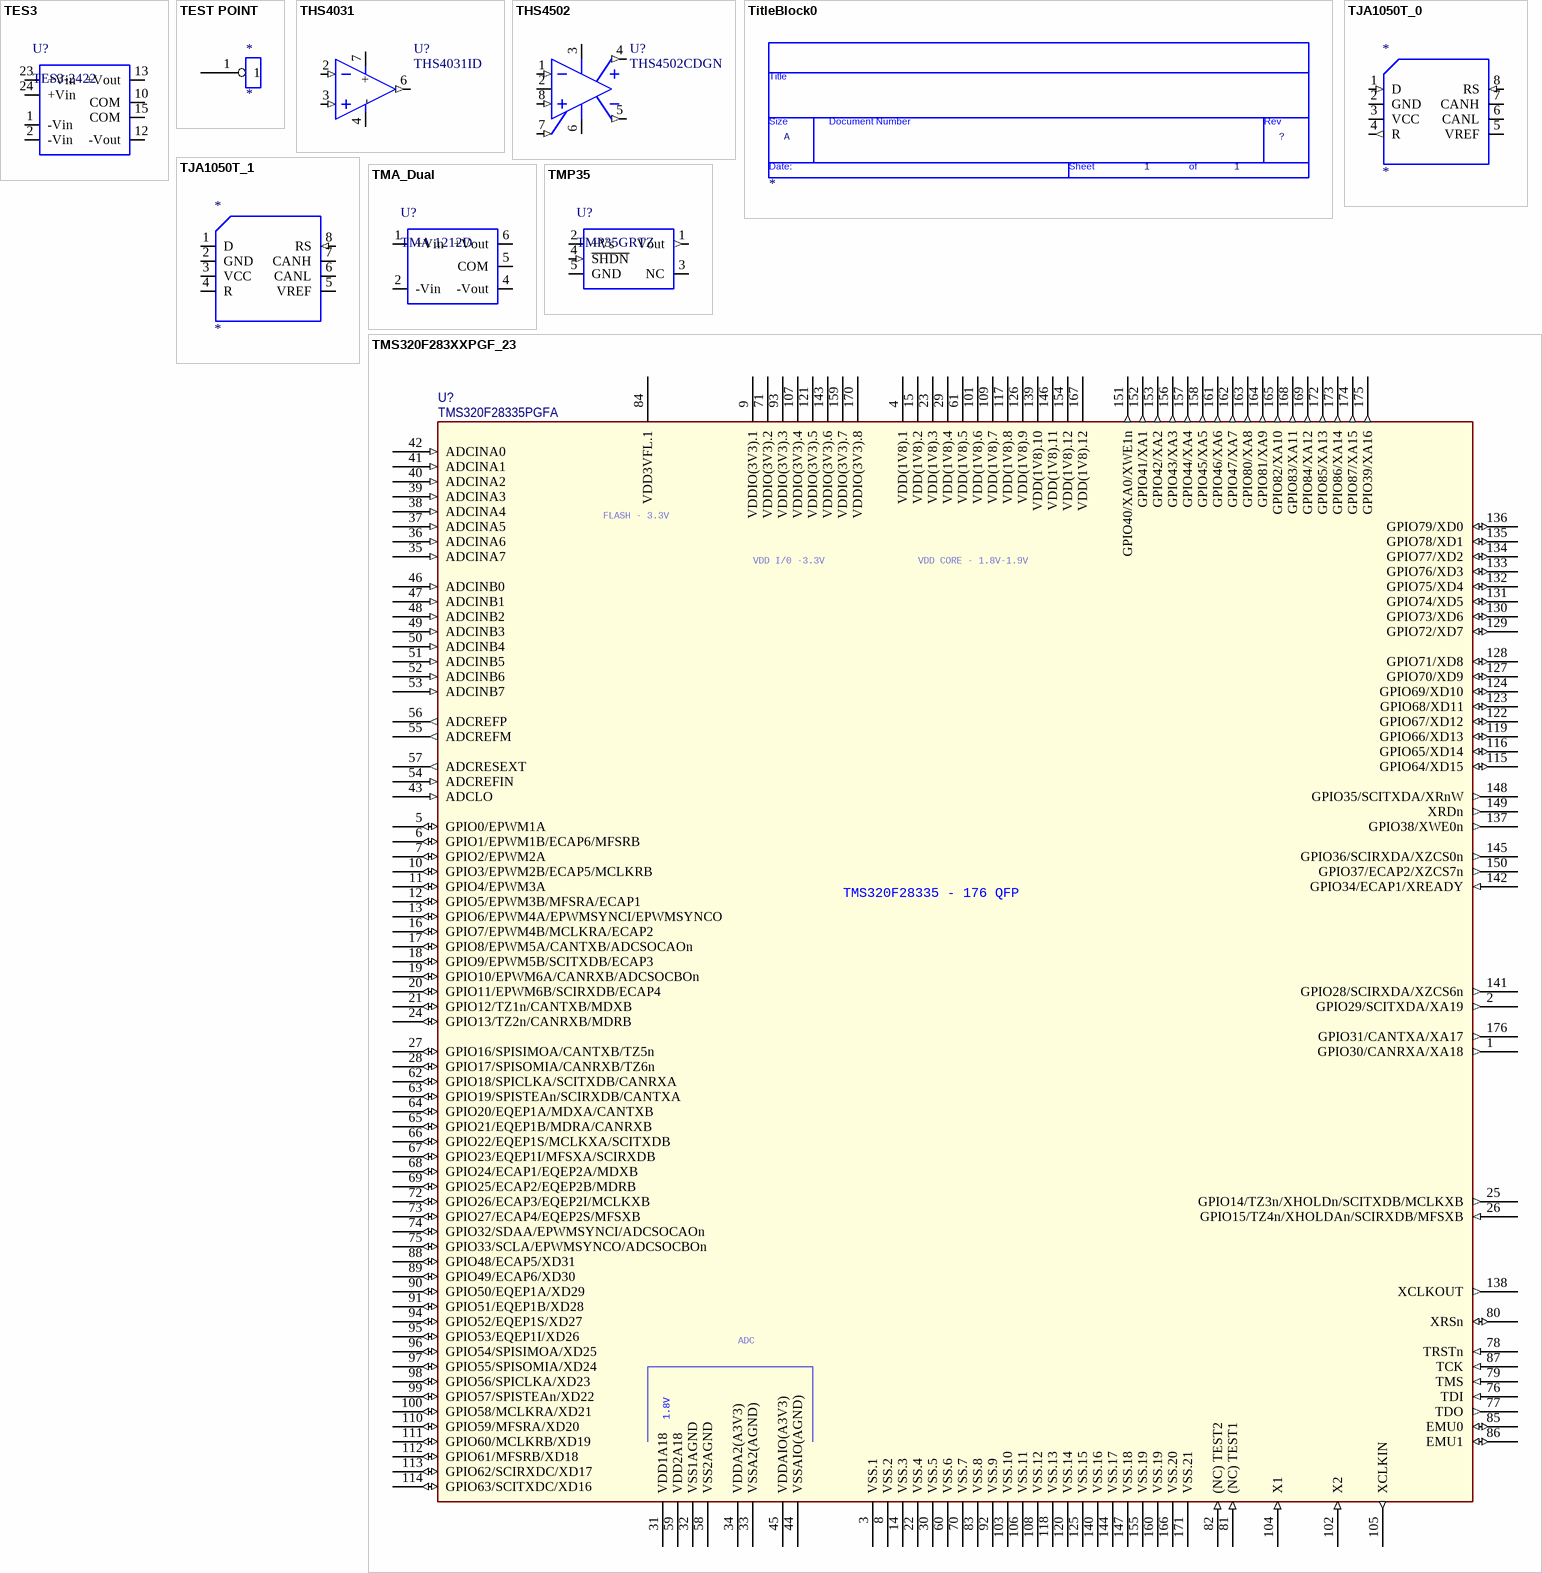
[diagram p13: symbols TES3 to TMS320F283XXPGF_23]

## TES3
designator U?, comment TES3-2422
DC/DC Converter 3W DIL24 SMD; Manufacturer: Traco Power
footprint TES3 (DC/DC Traco 3W SMD)
pins: 1 -Vin (power), 2 -Vin (power), 10 COM (power), 12 -Vout (power), 13 +Vout (power), 15 COM (power), 23 +Vin (power), 24 +Vin (power)

## TEST POINT
designator *
Right: 10; Bottom: 20
pins: 1

## THS4031
designator U?, comment THS4031ID
100-MHz LOW-NOISE HIGH-SPEED AMPLIFIERS
footprint SO801
simulation model MAX4104 (SUBCKT)
pins: 2 IN- (in), 3 IN+ (in), 4 - (power), 6 OUT (out), 7 + (power)

## THS4502
designator U?, comment THS4502CDGN
Wideband, Low Distortion Fully Differential Amplifier
footprint TSSOP8_Power (DGN Width 3 mm; Pitch 0.65 mm)
pins: 1 VIN- (in), 2 VOCM, 3 VS+ (power), 4 VOUT+ (out), 5 VOUT- (out), 6 VS- (power), 7 ~{PD} (in), 8 VIN+ (in)

## TitleBlock0
designator *  Page Size: A  Page Number: 1  (graphical)
Right: 360; Bottom: 90; Page Create Date: March  8, 1995; RevCode: ?; Page Count: 1
text: Title; Size; Document Number; Rev; Date:; Sheet; of

## TJA1050T_0
designator *
Right: 70; Bottom: 70
pins: 1 D (in), 2 GND, 3 VCC, 4 R (out), 5 VREF, 6 CANL, 7 CANH, 8 RS (in)

## TJA1050T_1
designator *
Right: 70; Bottom: 70
pins: 1 D (io), 2 GND, 3 VCC, 4 R (io), 5 VREF, 6 CANL, 7 CANH, 8 RS (in)

## TMA_Dual
designator U?, comment TMA 1212D
DC/DC Converter 1W Dual outputs; Manufacturer: Traco Power
footprint TMA_SIL7
pins: 1 +Vin (power), 2 -Vin (power), 4 -Vout (power), 5 COM (power), 6 +Vout (power)

## TMP35
designator U?, comment TMP35GRTZ
IC TEMP SENSOR CENTIGRD SOT23-5
footprint SOT23-5 (SOT-23/SC-74A; 5 Leads; Body 3 x 3 mm, inc. leads (LxW max))
pins: 1 Vout (out), 2 +Vs (power), 3 NC, 4 ~{SHDN} (in), 5 GND (power)